# Altium integrated library AD DSP 32-Bit.IntLib: 40 symbols (part 5 of 6)
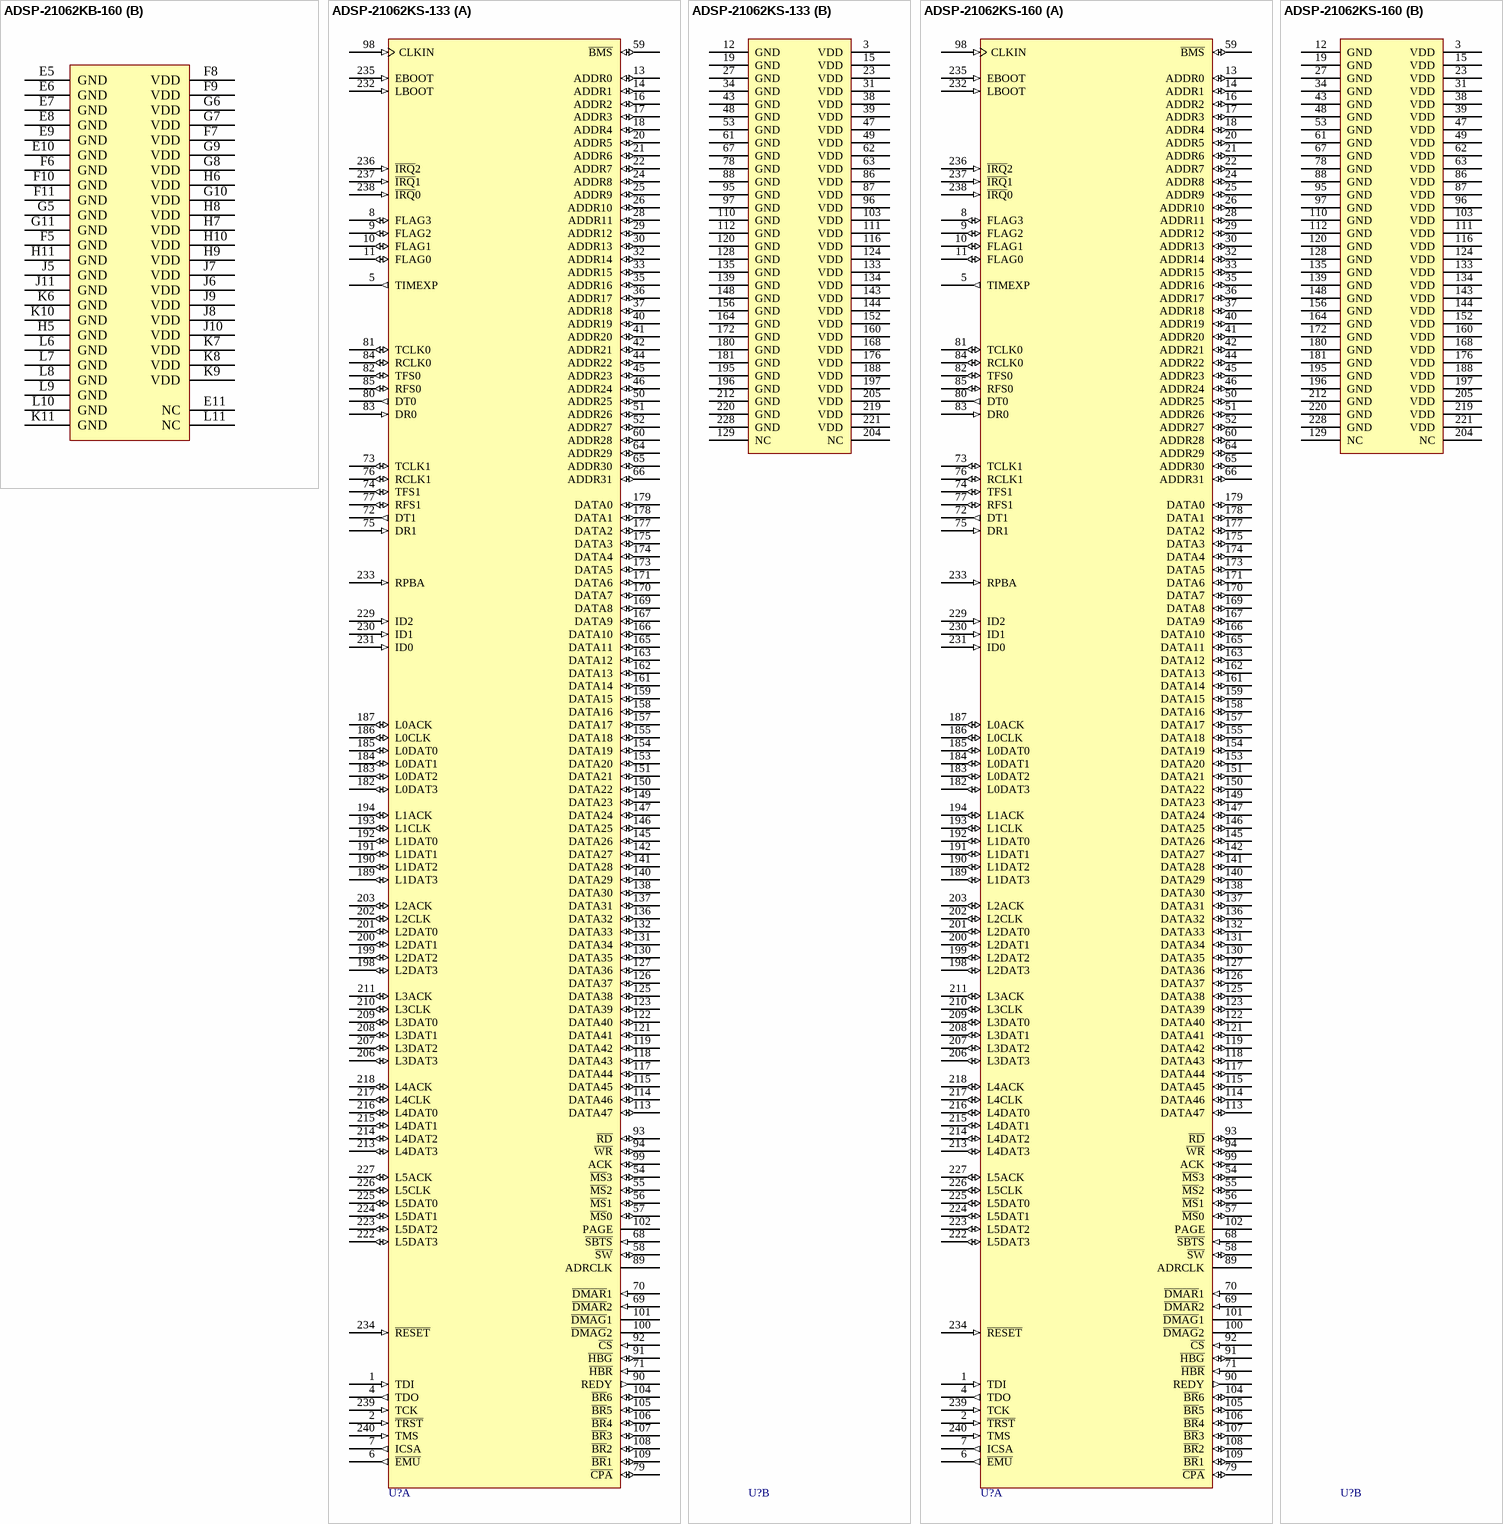
[diagram p46: symbols ADSP-21062KB-160 to ADSP-21062KS-160]

## ADSP-21062KB-160
designator U?
SHARC, 40MHZ, 120 MFLOPS, 5V, DSP Microcomputer Floating Point; Published: 24-Aug-2001; LatestRevisionDate: 13-Apr-2006; LatestRevisionNote: IPC-7351 Footprint Added.; DatasheetVersion: 2000; PackageVersion: revB; PackageReference: B225; Publisher: Altium Limited; PackageDescription: 225-Ball Ball Grid Array 1.27 mm Pitch; ComponentLink1Description: Manufacturer Link; ComponentLink1URL: http://www.analog.com/; ComponentLink2Description: Datasheet; ComponentLink2URL: http://www.analog.com/UploadedFiles/Data_Sheets/7987730331233011ADSP_21062_L_b.pdf
footprint B225 (BGA, 225-Leads, Body 23x23mm, Pitch 1.27mm)
3D model 21062-B225 (225-Ball Ball Grid Array 1.27 mm Pitch)
part A pins: A1 ~{BMS} (io), A2 ADDR30 (io), A3 ~{DMAR}2 (in), A4 DT1 (out), A5 RCLK1 (io), A6 TCLK0 (io), A7 RCLK0 (io), A8 ADRCLK (hiz), A9 ~{CS} (in), A10 CLKIN (in), A11 PAGE (hiz), A12 ~{BR}3 (io), A13 DATA47 (io), A14 DATA44 (io), A15 DATA42 (io), B1 ~{MS}0 (io), B2 ~{SW} (io), B3 ADDR31 (io), B4 ~{HBR} (in), B5 DR1 (in), B6 DT0 (out), B7 DR0 (in), B8 REDY (out), B9 ~{RD} (io), B10 ACK (io), B11 ~{BR}6 (io), B12 ~{BR}2 (io), B13 DATA45 (io), B14 DATA43 (io), B15 DATA39 (io), C1 ~{MS}3 (io), C2 ~{MS}1 (io), C3 ADDR28 (io), C4 ~{SBTS} (in), C5 TCLK1 (io), C6 RFS1 (io), C7 TFS0 (io), C8 RFS0 (io), C9 ~{WR} (io), C10 ~{DMAG}1 (hiz), C11 ~{BR}4 (io), C12 DATA46 (io), C13 DATA41 (io), C14 DATA38 (io), C15 DATA36 (io), D1 ADDR25 (io), D2 ADDR26 (io), D3 ~{MS}2 (io), D4 ADDR29 (io), D5 ~{DMAR}1 (in), D6 TFS1 (io), D7 ~{CPA} (io), D8 ~{HBG} (io), D9 ~{DMAG}2 (hiz), D10 ~{BR}5 (io), D11 ~{BR}1 (io), D12 DATA40 (io), D13 DATA37 (io), D14 DATA35 (io), D15 DATA34 (io), E1 ADDR21 (io), E2 ADDR22 (io), E3 ADDR24 (io), E4 ADDR27 (io), E12 DATA33 (io), E13 DATA30 (io), E14 DATA32 (io), E15 DATA31 (io), F1 ADDR17 (io), F2 ADDR18 (io), F3 ADDR20 (io), F4 ADDR23 (io), F12 DATA29 (io), F13 DATA26 (io), F14 DATA28 (io), F15 DATA27 (io), G1 ADDR14 (io), G2 ADDR15 (io), G3 ADDR16 (io), G4 ADDR19 (io), G12 DATA22 (io), G13 DATA25 (io), G14 DATA24 (io), G15 DATA23 (io), H1 ADDR12 (io), H2 ADDR11 (io), H3 ADDR13 (io), H4 ADDR10 (io), H12 DATA18 (io), H13 DATA19 (io), H14 DATA21 (io), H15 DATA20 (io), J1 ADDR9 (io), J2 ADDR8 (io), J3 ADDR7 (io), J4 ADDR4 (io), J12 DATA12 (io), J13 DATA15 (io), J14 DATA16 (io), J15 DATA17 (io), K1 ADDR6 (io), K2 ADDR5 (io), K3 ADDR3 (io), K4 ADDR0 (io), K5 ICSA (out), K12 DATA8 (io), K13 DATA11 (io), K14 DATA13 (io), K15 DATA14 (io), L1 ADDR2 (io), L2 ADDR1 (io), L3 FLAG0 (io), L4 FLAG3 (io), L5 RPBA (in), L12 DATA4 (io), L13 DATA7 (io), L14 DATA9 (io), L15 DATA10 (io), M1 FLAG1 (io), M2 FLAG2 (io), M3 TIMEXP (out), M4 TDI (in), M5 LBOOT (in), M6 L5ACK (io), M7 L5DAT2 (io), M8 L4DAT2 (io), M9 L3DAT0 (io), M10 L2DAT3 (io), M11 L1DAT1 (io), M12 L0DAT0 (io), M13 DATA2 (io), M14 DATA5 (io), M15 DATA6 (io), N1 ~{EMU} (out), N2 TDO (out), N3 ~{IRQ}0 (in), N4 ~{IRQ}1 (in), N5 ID2 (in), N6 L5DAT1 (io), N7 L4CLK (io), N8 L3CLK (io), N9 L3DAT3 (io), N10 L2DAT0 (io), N11 L1ACK (io), N12 L1DAT3 (io), N13 L0DAT3 (io), N14 DATA1 (io), N15 DATA3 (io), P1 ~{TRST} (in), P2 TMS (in), P3 EBOOT (in), P4 ID0 (in), P5 L5CLK (io), P6 L5DAT3 (io), P7 L4DAT0 (io), P8 L4DAT3 (io), P9 L3DAT2 (io), P10 L2CLK (io), P11 L2DAT2 (io), P12 L1DAT0 (io), P13 L0ACK (io), P14 L0DAT1 (io), P15 DATA0 (io), R1 TCK (in), R2 ~{IRQ}2 (in), R3 ~{RESET} (in), R4 ID1 (in), R5 L5DAT0 (io), R6 L4ACK (io), R7 L4DAT1 (io), R8 L3ACK (io), R9 L3DAT1 (io), R10 L2ACK (io), R11 L2DAT1 (io), R12 L1CLK (io), R13 L1DAT2 (io), R14 L0CLK (io), R15 L0DAT2 (io)
part B pins: E5 GND (power), E6 GND (power), E7 GND (power), E8 GND (power), E9 GND (power), E10 GND (power), E11 NC, F5 GND (power), F6 GND (power), F7 VDD (power), F8 VDD (power), F9 VDD (power), F10 GND (power), F11 GND (power), G5 GND (power), G6 VDD (power), G7 VDD (power), G8 VDD (power), G9 VDD (power), G10 VDD (power), G11 GND (power), H5 GND (power), H6 VDD (power), H7 VDD (power), H8 VDD (power), H9 VDD (power), H10 VDD (power), H11 GND (power), J5 GND (power), J6 VDD (power), J7 VDD (power), J8 VDD (power), J9 VDD (power), J10 VDD (power), J11 GND (power), K6 GND (power), K7 VDD (power), K8 VDD (power), K9 VDD (power), K10 GND (power), K11 GND (power), L6 GND (power), L7 GND (power), L8 GND (power), L9 GND (power), L10 GND (power), L11 NC

## ADSP-21062KS-133
designator U?
SHARC, 40MHZ, 120 MFLOPS, 5V, DSP Microcomputer Floating Point; PackageFeature: Thermally Enhanced MQFP includes heat slug on its top surface; Published: 24-Aug-2001; LatestRevisionDate: 13-Apr-2006; LatestRevisionNote: IPC-7351 Footprint Added.; DatasheetVersion: 2000; PackageVersion: 2000; PackageReference: MQFP240-5V; Publisher: Altium Limited; PackageDescription: 240-Pin Shrink Quad Flat Pack 0.5 mm Pitch; ComponentLink1Description: Manufacturer Link; ComponentLink1URL: http://www.analog.com/; ComponentLink2Description: Datasheet; ComponentLink2URL: http://www.analog.com/UploadedFiles/Data_Sheets/7987730331233011ADSP_21062_L_b.pdf
footprint MQFP240-5V_N (Shrink QFP, 240-Leads, Body 32x32mm, Pitch 0.5mm, IPC Medium Density)
footprint MQFP240-5V_L (Shrink QFP, 240-Leads, Body 32x32mm, Pitch 0.5mm, IPC High Density)
footprint MQFP240-5V_M (Shrink QFP, 240-Leads, Body 32x32mm, Pitch 0.5mm, IPC Low Density)
3D model 21062-MQFP240 (240-Pin Shrink Quad Flat Pack 0.5 mm Pitch)
part A pins: 1 TDI (in), 2 ~{TRST} (in), 4 TDO (out), 5 TIMEXP (out), 6 ~{EMU} (out), 7 ICSA (out), 8 FLAG3 (io), 9 FLAG2 (io), 10 FLAG1 (io), 11 FLAG0 (io), 13 ADDR0 (io), 14 ADDR1 (io), 16 ADDR2 (io), 17 ADDR3 (io), 18 ADDR4 (io), 20 ADDR5 (io), 21 ADDR6 (io), 22 ADDR7 (io), 24 ADDR8 (io), 25 ADDR9 (io), 26 ADDR10 (io), 28 ADDR11 (io), 29 ADDR12 (io), 30 ADDR13 (io), 32 ADDR14 (io), 33 ADDR15 (io), 35 ADDR16 (io), 36 ADDR17 (io), 37 ADDR18 (io), 40 ADDR19 (io), 41 ADDR20 (io), 42 ADDR21 (io), 44 ADDR22 (io), 45 ADDR23 (io), 46 ADDR24 (io), 50 ADDR25 (io), 51 ADDR26 (io), 52 ADDR27 (io), 54 ~{MS}3 (io), 55 ~{MS}2 (io), 56 ~{MS}1 (io), 57 ~{MS}0 (io), 58 ~{SW} (io), 59 ~{BMS} (io), 60 ADDR28 (io), 64 ADDR29 (io), 65 ADDR30 (io), 66 ADDR31 (io), 68 ~{SBTS} (in), 69 ~{DMAR}2 (in), 70 ~{DMAR}1 (in), 71 ~{HBR} (in), 72 DT1 (out), 73 TCLK1 (io), 74 TFS1 (io), 75 DR1 (in), 76 RCLK1 (io), 77 RFS1 (io), 79 ~{CPA} (io), 80 DT0 (out), 81 TCLK0 (io), 82 TFS0 (io), 83 DR0 (in), 84 RCLK0 (io), 85 RFS0 (io), 89 ADRCLK (hiz), 90 REDY (out), 91 ~{HBG} (io), 92 ~{CS} (in), 93 ~{RD} (io), 94 ~{WR} (io), 98 CLKIN (in), 99 ACK (io), 100 ~{DMAG}2 (hiz), 101 ~{DMAG}1 (hiz), 102 PAGE (hiz), 104 ~{BR}6 (io), 105 ~{BR}5 (io), 106 ~{BR}4 (io), 107 ~{BR}3 (io), 108 ~{BR}2 (io), 109 ~{BR}1 (io), 113 DATA47 (io), 114 DATA46 (io), 115 DATA45 (io), 117 DATA44 (io), 118 DATA43 (io), 119 DATA42 (io), 121 DATA41 (io), 122 DATA40 (io), 123 DATA39 (io), 125 DATA38 (io), 126 DATA37 (io), 127 DATA36 (io), 130 DATA35 (io), 131 DATA34 (io), 132 DATA33 (io), 136 DATA32 (io), 137 DATA31 (io), 138 DATA30 (io), 140 DATA29 (io), 141 DATA28 (io), 142 DATA27 (io), 145 DATA26 (io), 146 DATA25 (io), 147 DATA24 (io), 149 DATA23 (io), 150 DATA22 (io), 151 DATA21 (io), 153 DATA20 (io), 154 DATA19 (io), 155 DATA18 (io), 157 DATA17 (io), 158 DATA16 (io), 159 DATA15 (io), 161 DATA14 (io), 162 DATA13 (io), 163 DATA12 (io), 165 DATA11 (io), 166 DATA10 (io), 167 DATA9 (io), 169 DATA8 (io), 170 DATA7 (io), 171 DATA6 (io), 173 DATA5 (io), 174 DATA4 (io), 175 DATA3 (io), 177 DATA2 (io), 178 DATA1 (io), 179 DATA0 (io), 182 L0DAT3 (io), 183 L0DAT2 (io), 184 L0DAT1 (io), 185 L0DAT0 (io), 186 L0CLK (io), 187 L0ACK (io), 189 L1DAT3 (io), 190 L1DAT2 (io), 191 L1DAT1 (io), 192 L1DAT0 (io), 193 L1CLK (io), 194 L1ACK (io), 198 L2DAT3 (io), 199 L2DAT2 (io), 200 L2DAT1 (io), 201 L2DAT0 (io), 202 L2CLK (io), 203 L2ACK (io), 206 L3DAT3 (io), 207 L3DAT2 (io), 208 L3DAT1 (io), 209 L3DAT0 (io), 210 L3CLK (io), 211 L3ACK (io), 213 L4DAT3 (io), 214 L4DAT2 (io), 215 L4DAT1 (io), 216 L4DAT0 (io), 217 L4CLK (io), 218 L4ACK (io), 222 L5DAT3 (io), 223 L5DAT2 (io), 224 L5DAT1 (io), 225 L5DAT0 (io), 226 L5CLK (io), 227 L5ACK (io), 229 ID2 (in), 230 ID1 (in), 231 ID0 (in), 232 LBOOT (in), 233 RPBA (in), 234 ~{RESET} (in), 235 EBOOT (in), 236 ~{IRQ}2 (in), 237 ~{IRQ}1 (in), 238 ~{IRQ}0 (in), 239 TCK (in), 240 TMS (in)
part B pins: 3 VDD (power), 12 GND (power), 15 VDD (power), 19 GND (power), 23 VDD (power), 27 GND (power), 31 VDD (power), 34 GND (power), 38 VDD (power), 39 VDD (power), 43 GND (power), 47 VDD (power), 48 GND (power), 49 VDD (power), 53 GND (power), 61 GND (power), 62 VDD (power), 63 VDD (power), 67 GND (power), 78 GND (power), 86 VDD (power), 87 VDD (power), 88 GND (power), 95 GND (power), 96 VDD (power), 97 GND (power), 103 VDD (power), 110 GND (power), 111 VDD (power), 112 GND (power), 116 VDD (power), 120 GND (power), 124 VDD (power), 128 GND (power), 129 NC, 133 VDD (power), 134 VDD (power), 135 GND (power), 139 GND (power), 143 VDD (power), 144 VDD (power), 148 GND (power), 152 VDD (power), 156 GND (power), 160 VDD (power), 164 GND (power), 168 VDD (power), 172 GND (power), 176 VDD (power), 180 GND (power), 181 GND (power), 188 VDD (power), 195 GND (power), 196 GND (power), 197 VDD (power), 204 NC, 205 VDD (power), 212 GND (power), 219 VDD (power), 220 GND (power), 221 VDD (power), 228 GND (power)

## ADSP-21062KS-160
designator U?
SHARC, 40MHZ, 120 MFLOPS, 5V, DSP Microcomputer Floating Point; PackageFeature: Thermally Enhanced MQFP includes heat slug on its top surface; Published: 24-Aug-2001; LatestRevisionDate: 13-Apr-2006; LatestRevisionNote: IPC-7351 Footprint Added.; DatasheetVersion: 2000; PackageVersion: 2000; PackageReference: MQFP240-5V; Publisher: Altium Limited; PackageDescription: 240-Pin Shrink Quad Flat Pack 0.5 mm Pitch; ComponentLink1Description: Manufacturer Link; ComponentLink1URL: http://www.analog.com/; ComponentLink2Description: Datasheet; ComponentLink2URL: http://www.analog.com/UploadedFiles/Data_Sheets/7987730331233011ADSP_21062_L_b.pdf
footprint MQFP240-5V_N (Shrink QFP, 240-Leads, Body 32x32mm, Pitch 0.5mm, IPC Medium Density)
footprint MQFP240-5V_L (Shrink QFP, 240-Leads, Body 32x32mm, Pitch 0.5mm, IPC High Density)
footprint MQFP240-5V_M (Shrink QFP, 240-Leads, Body 32x32mm, Pitch 0.5mm, IPC Low Density)
3D model 21062-MQFP240 (240-Pin Shrink Quad Flat Pack 0.5 mm Pitch)
part A pins: 1 TDI (in), 2 ~{TRST} (in), 4 TDO (out), 5 TIMEXP (out), 6 ~{EMU} (out), 7 ICSA (out), 8 FLAG3 (io), 9 FLAG2 (io), 10 FLAG1 (io), 11 FLAG0 (io), 13 ADDR0 (io), 14 ADDR1 (io), 16 ADDR2 (io), 17 ADDR3 (io), 18 ADDR4 (io), 20 ADDR5 (io), 21 ADDR6 (io), 22 ADDR7 (io), 24 ADDR8 (io), 25 ADDR9 (io), 26 ADDR10 (io), 28 ADDR11 (io), 29 ADDR12 (io), 30 ADDR13 (io), 32 ADDR14 (io), 33 ADDR15 (io), 35 ADDR16 (io), 36 ADDR17 (io), 37 ADDR18 (io), 40 ADDR19 (io), 41 ADDR20 (io), 42 ADDR21 (io), 44 ADDR22 (io), 45 ADDR23 (io), 46 ADDR24 (io), 50 ADDR25 (io), 51 ADDR26 (io), 52 ADDR27 (io), 54 ~{MS}3 (io), 55 ~{MS}2 (io), 56 ~{MS}1 (io), 57 ~{MS}0 (io), 58 ~{SW} (io), 59 ~{BMS} (io), 60 ADDR28 (io), 64 ADDR29 (io), 65 ADDR30 (io), 66 ADDR31 (io), 68 ~{SBTS} (in), 69 ~{DMAR}2 (in), 70 ~{DMAR}1 (in), 71 ~{HBR} (in), 72 DT1 (out), 73 TCLK1 (io), 74 TFS1 (io), 75 DR1 (in), 76 RCLK1 (io), 77 RFS1 (io), 79 ~{CPA} (io), 80 DT0 (out), 81 TCLK0 (io), 82 TFS0 (io), 83 DR0 (in), 84 RCLK0 (io), 85 RFS0 (io), 89 ADRCLK (hiz), 90 REDY (out), 91 ~{HBG} (io), 92 ~{CS} (in), 93 ~{RD} (io), 94 ~{WR} (io), 98 CLKIN (in), 99 ACK (io), 100 ~{DMAG}2 (hiz), 101 ~{DMAG}1 (hiz), 102 PAGE (hiz), 104 ~{BR}6 (io), 105 ~{BR}5 (io), 106 ~{BR}4 (io), 107 ~{BR}3 (io), 108 ~{BR}2 (io), 109 ~{BR}1 (io), 113 DATA47 (io), 114 DATA46 (io), 115 DATA45 (io), 117 DATA44 (io), 118 DATA43 (io), 119 DATA42 (io), 121 DATA41 (io), 122 DATA40 (io), 123 DATA39 (io), 125 DATA38 (io), 126 DATA37 (io), 127 DATA36 (io), 130 DATA35 (io), 131 DATA34 (io), 132 DATA33 (io), 136 DATA32 (io), 137 DATA31 (io), 138 DATA30 (io), 140 DATA29 (io), 141 DATA28 (io), 142 DATA27 (io), 145 DATA26 (io), 146 DATA25 (io), 147 DATA24 (io), 149 DATA23 (io), 150 DATA22 (io), 151 DATA21 (io), 153 DATA20 (io), 154 DATA19 (io), 155 DATA18 (io), 157 DATA17 (io), 158 DATA16 (io), 159 DATA15 (io), 161 DATA14 (io), 162 DATA13 (io), 163 DATA12 (io), 165 DATA11 (io), 166 DATA10 (io), 167 DATA9 (io), 169 DATA8 (io), 170 DATA7 (io), 171 DATA6 (io), 173 DATA5 (io), 174 DATA4 (io), 175 DATA3 (io), 177 DATA2 (io), 178 DATA1 (io), 179 DATA0 (io), 182 L0DAT3 (io), 183 L0DAT2 (io), 184 L0DAT1 (io), 185 L0DAT0 (io), 186 L0CLK (io), 187 L0ACK (io), 189 L1DAT3 (io), 190 L1DAT2 (io), 191 L1DAT1 (io), 192 L1DAT0 (io), 193 L1CLK (io), 194 L1ACK (io), 198 L2DAT3 (io), 199 L2DAT2 (io), 200 L2DAT1 (io), 201 L2DAT0 (io), 202 L2CLK (io), 203 L2ACK (io), 206 L3DAT3 (io), 207 L3DAT2 (io), 208 L3DAT1 (io), 209 L3DAT0 (io), 210 L3CLK (io), 211 L3ACK (io), 213 L4DAT3 (io), 214 L4DAT2 (io), 215 L4DAT1 (io), 216 L4DAT0 (io), 217 L4CLK (io), 218 L4ACK (io), 222 L5DAT3 (io), 223 L5DAT2 (io), 224 L5DAT1 (io), 225 L5DAT0 (io), 226 L5CLK (io), 227 L5ACK (io), 229 ID2 (in), 230 ID1 (in), 231 ID0 (in), 232 LBOOT (in), 233 RPBA (in), 234 ~{RESET} (in), 235 EBOOT (in), 236 ~{IRQ}2 (in), 237 ~{IRQ}1 (in), 238 ~{IRQ}0 (in), 239 TCK (in), 240 TMS (in)
part B pins: 3 VDD (power), 12 GND (power), 15 VDD (power), 19 GND (power), 23 VDD (power), 27 GND (power), 31 VDD (power), 34 GND (power), 38 VDD (power), 39 VDD (power), 43 GND (power), 47 VDD (power), 48 GND (power), 49 VDD (power), 53 GND (power), 61 GND (power), 62 VDD (power), 63 VDD (power), 67 GND (power), 78 GND (power), 86 VDD (power), 87 VDD (power), 88 GND (power), 95 GND (power), 96 VDD (power), 97 GND (power), 103 VDD (power), 110 GND (power), 111 VDD (power), 112 GND (power), 116 VDD (power), 120 GND (power), 124 VDD (power), 128 GND (power), 129 NC, 133 VDD (power), 134 VDD (power), 135 GND (power), 139 GND (power), 143 VDD (power), 144 VDD (power), 148 GND (power), 152 VDD (power), 156 GND (power), 160 VDD (power), 164 GND (power), 168 VDD (power), 172 GND (power), 176 VDD (power), 180 GND (power), 181 GND (power), 188 VDD (power), 195 GND (power), 196 GND (power), 197 VDD (power), 204 NC, 205 VDD (power), 212 GND (power), 219 VDD (power), 220 GND (power), 221 VDD (power), 228 GND (power)

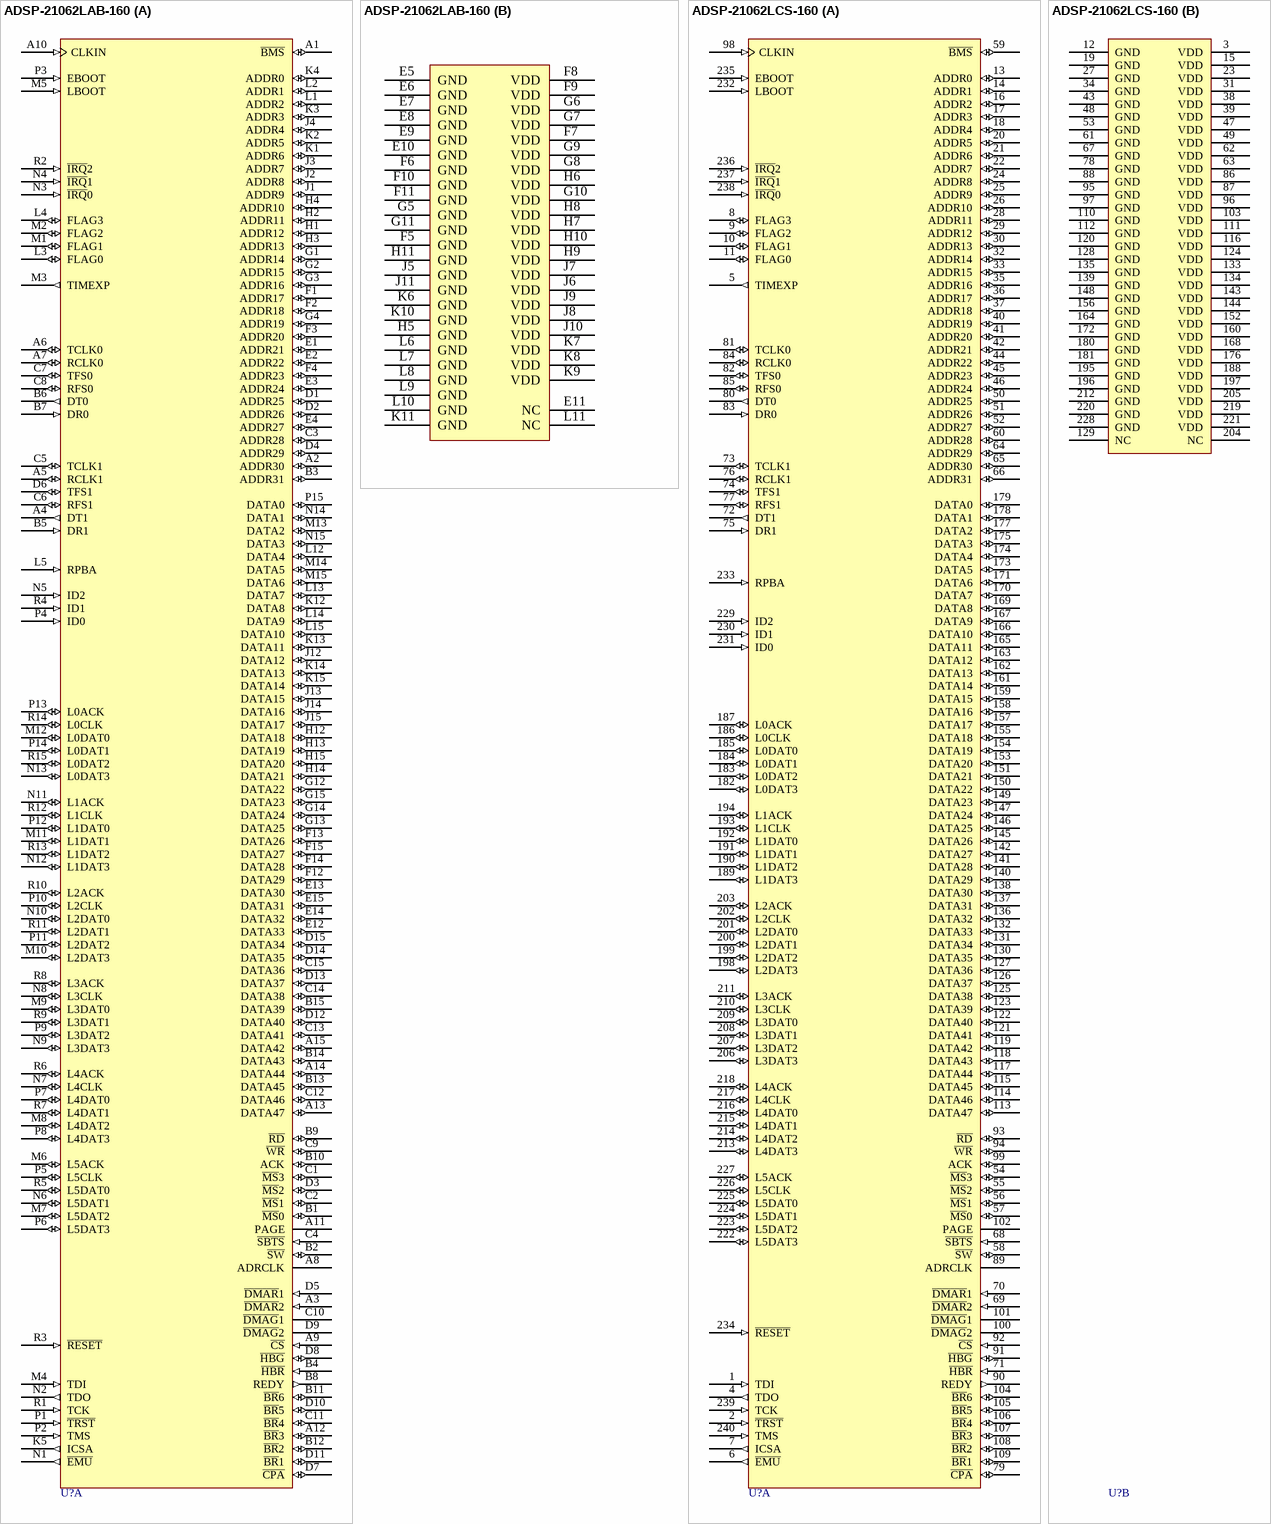
[diagram p35: symbols ADSP-21062LAB-160 to ADSP-21062LCS-160]

## ADSP-21062LAB-160
designator U?
SHARC, 40MHZ, 120 MFLOPS, 3.3V, DSP Microcomputer Floating Point; Published: 24-Aug-2001; LatestRevisionDate: 13-Apr-2006; LatestRevisionNote: IPC-7351 Footprint Added.; DatasheetVersion: 2000; PackageVersion: revB; PackageReference: B225; Publisher: Altium Limited; PackageDescription: 225-Ball Ball Grid Array 1.27 mm Pitch; ComponentLink1Description: Manufacturer Link; ComponentLink1URL: http://www.analog.com/; ComponentLink2Description: Datasheet; ComponentLink2URL: http://www.analog.com/UploadedFiles/Data_Sheets/7987730331233011ADSP_21062_L_b.pdf
footprint B225 (BGA, 225-Leads, Body 23x23mm, Pitch 1.27mm)
3D model 21062L-B225 (225-Ball Ball Grid Array 1.27 mm Pitch)
part A pins: A1 ~{BMS} (io), A2 ADDR30 (io), A3 ~{DMAR}2 (in), A4 DT1 (out), A5 RCLK1 (io), A6 TCLK0 (io), A7 RCLK0 (io), A8 ADRCLK (hiz), A9 ~{CS} (in), A10 CLKIN (in), A11 PAGE (hiz), A12 ~{BR}3 (io), A13 DATA47 (io), A14 DATA44 (io), A15 DATA42 (io), B1 ~{MS}0 (io), B2 ~{SW} (io), B3 ADDR31 (io), B4 ~{HBR} (in), B5 DR1 (in), B6 DT0 (out), B7 DR0 (in), B8 REDY (out), B9 ~{RD} (io), B10 ACK (io), B11 ~{BR}6 (io), B12 ~{BR}2 (io), B13 DATA45 (io), B14 DATA43 (io), B15 DATA39 (io), C1 ~{MS}3 (io), C2 ~{MS}1 (io), C3 ADDR28 (io), C4 ~{SBTS} (in), C5 TCLK1 (io), C6 RFS1 (io), C7 TFS0 (io), C8 RFS0 (io), C9 ~{WR} (io), C10 ~{DMAG}1 (hiz), C11 ~{BR}4 (io), C12 DATA46 (io), C13 DATA41 (io), C14 DATA38 (io), C15 DATA36 (io), D1 ADDR25 (io), D2 ADDR26 (io), D3 ~{MS}2 (io), D4 ADDR29 (io), D5 ~{DMAR}1 (in), D6 TFS1 (io), D7 ~{CPA} (io), D8 ~{HBG} (io), D9 ~{DMAG}2 (hiz), D10 ~{BR}5 (io), D11 ~{BR}1 (io), D12 DATA40 (io), D13 DATA37 (io), D14 DATA35 (io), D15 DATA34 (io), E1 ADDR21 (io), E2 ADDR22 (io), E3 ADDR24 (io), E4 ADDR27 (io), E12 DATA33 (io), E13 DATA30 (io), E14 DATA32 (io), E15 DATA31 (io), F1 ADDR17 (io), F2 ADDR18 (io), F3 ADDR20 (io), F4 ADDR23 (io), F12 DATA29 (io), F13 DATA26 (io), F14 DATA28 (io), F15 DATA27 (io), G1 ADDR14 (io), G2 ADDR15 (io), G3 ADDR16 (io), G4 ADDR19 (io), G12 DATA22 (io), G13 DATA25 (io), G14 DATA24 (io), G15 DATA23 (io), H1 ADDR12 (io), H2 ADDR11 (io), H3 ADDR13 (io), H4 ADDR10 (io), H12 DATA18 (io), H13 DATA19 (io), H14 DATA21 (io), H15 DATA20 (io), J1 ADDR9 (io), J2 ADDR8 (io), J3 ADDR7 (io), J4 ADDR4 (io), J12 DATA12 (io), J13 DATA15 (io), J14 DATA16 (io), J15 DATA17 (io), K1 ADDR6 (io), K2 ADDR5 (io), K3 ADDR3 (io), K4 ADDR0 (io), K5 ICSA (out), K12 DATA8 (io), K13 DATA11 (io), K14 DATA13 (io), K15 DATA14 (io), L1 ADDR2 (io), L2 ADDR1 (io), L3 FLAG0 (io), L4 FLAG3 (io), L5 RPBA (in), L12 DATA4 (io), L13 DATA7 (io), L14 DATA9 (io), L15 DATA10 (io), M1 FLAG1 (io), M2 FLAG2 (io), M3 TIMEXP (out), M4 TDI (in), M5 LBOOT (in), M6 L5ACK (io), M7 L5DAT2 (io), M8 L4DAT2 (io), M9 L3DAT0 (io), M10 L2DAT3 (io), M11 L1DAT1 (io), M12 L0DAT0 (io), M13 DATA2 (io), M14 DATA5 (io), M15 DATA6 (io), N1 ~{EMU} (out), N2 TDO (out), N3 ~{IRQ}0 (in), N4 ~{IRQ}1 (in), N5 ID2 (in), N6 L5DAT1 (io), N7 L4CLK (io), N8 L3CLK (io), N9 L3DAT3 (io), N10 L2DAT0 (io), N11 L1ACK (io), N12 L1DAT3 (io), N13 L0DAT3 (io), N14 DATA1 (io), N15 DATA3 (io), P1 ~{TRST} (in), P2 TMS (in), P3 EBOOT (in), P4 ID0 (in), P5 L5CLK (io), P6 L5DAT3 (io), P7 L4DAT0 (io), P8 L4DAT3 (io), P9 L3DAT2 (io), P10 L2CLK (io), P11 L2DAT2 (io), P12 L1DAT0 (io), P13 L0ACK (io), P14 L0DAT1 (io), P15 DATA0 (io), R1 TCK (in), R2 ~{IRQ}2 (in), R3 ~{RESET} (in), R4 ID1 (in), R5 L5DAT0 (io), R6 L4ACK (io), R7 L4DAT1 (io), R8 L3ACK (io), R9 L3DAT1 (io), R10 L2ACK (io), R11 L2DAT1 (io), R12 L1CLK (io), R13 L1DAT2 (io), R14 L0CLK (io), R15 L0DAT2 (io)
part B pins: E5 GND (power), E6 GND (power), E7 GND (power), E8 GND (power), E9 GND (power), E10 GND (power), E11 NC, F5 GND (power), F6 GND (power), F7 VDD (power), F8 VDD (power), F9 VDD (power), F10 GND (power), F11 GND (power), G5 GND (power), G6 VDD (power), G7 VDD (power), G8 VDD (power), G9 VDD (power), G10 VDD (power), G11 GND (power), H5 GND (power), H6 VDD (power), H7 VDD (power), H8 VDD (power), H9 VDD (power), H10 VDD (power), H11 GND (power), J5 GND (power), J6 VDD (power), J7 VDD (power), J8 VDD (power), J9 VDD (power), J10 VDD (power), J11 GND (power), K6 GND (power), K7 VDD (power), K8 VDD (power), K9 VDD (power), K10 GND (power), K11 GND (power), L6 GND (power), L7 GND (power), L8 GND (power), L9 GND (power), L10 GND (power), L11 NC

## ADSP-21062LCS-160
designator U?
SHARC, 40MHZ, 120 MFLOPS, 3.3V, DSP Microcomputer Floating Point; Published: 24-Aug-2001; LatestRevisionDate: 13-Apr-2006; LatestRevisionNote: IPC-7351 Footprint Added.; DatasheetVersion: 2000; PackageVersion: 2000; PackageReference: MQFP240-3.3V; Publisher: Altium Limited; PackageDescription: 240-Pin Shrink Quad Flat Pack 0.5 mm Pitch; ComponentLink1Description: Manufacturer Link; ComponentLink1URL: http://www.analog.com/; ComponentLink2Description: Datasheet; ComponentLink2URL: http://www.analog.com/UploadedFiles/Data_Sheets/7987730331233011ADSP_21062_L_b.pdf
footprint MQFP240-3.3V_N (Shrink QFP, 240-Leads, Body 32x32mm, Pitch 0.5mm, IPC Medium Density)
footprint MQFP240-3.3V_L (Shrink QFP, 240-Leads, Body 32x32mm, Pitch 0.5mm, IPC High Density)
footprint MQFP240-3.3V_M (Shrink QFP, 240-Leads, Body 32x32mm, Pitch 0.5mm, IPC Low Density)
3D model 21062L-MQFP240 (240-Pin Shrink Quad Flat Pack 0.5 mm Pitch)
part A pins: 1 TDI (in), 2 ~{TRST} (in), 4 TDO (out), 5 TIMEXP (out), 6 ~{EMU} (out), 7 ICSA (out), 8 FLAG3 (io), 9 FLAG2 (io), 10 FLAG1 (io), 11 FLAG0 (io), 13 ADDR0 (io), 14 ADDR1 (io), 16 ADDR2 (io), 17 ADDR3 (io), 18 ADDR4 (io), 20 ADDR5 (io), 21 ADDR6 (io), 22 ADDR7 (io), 24 ADDR8 (io), 25 ADDR9 (io), 26 ADDR10 (io), 28 ADDR11 (io), 29 ADDR12 (io), 30 ADDR13 (io), 32 ADDR14 (io), 33 ADDR15 (io), 35 ADDR16 (io), 36 ADDR17 (io), 37 ADDR18 (io), 40 ADDR19 (io), 41 ADDR20 (io), 42 ADDR21 (io), 44 ADDR22 (io), 45 ADDR23 (io), 46 ADDR24 (io), 50 ADDR25 (io), 51 ADDR26 (io), 52 ADDR27 (io), 54 ~{MS}3 (io), 55 ~{MS}2 (io), 56 ~{MS}1 (io), 57 ~{MS}0 (io), 58 ~{SW} (io), 59 ~{BMS} (io), 60 ADDR28 (io), 64 ADDR29 (io), 65 ADDR30 (io), 66 ADDR31 (io), 68 ~{SBTS} (in), 69 ~{DMAR}2 (in), 70 ~{DMAR}1 (in), 71 ~{HBR} (in), 72 DT1 (out), 73 TCLK1 (io), 74 TFS1 (io), 75 DR1 (in), 76 RCLK1 (io), 77 RFS1 (io), 79 ~{CPA} (io), 80 DT0 (out), 81 TCLK0 (io), 82 TFS0 (io), 83 DR0 (in), 84 RCLK0 (io), 85 RFS0 (io), 89 ADRCLK (hiz), 90 REDY (out), 91 ~{HBG} (io), 92 ~{CS} (in), 93 ~{RD} (io), 94 ~{WR} (io), 98 CLKIN (in), 99 ACK (io), 100 ~{DMAG}2 (hiz), 101 ~{DMAG}1 (hiz), 102 PAGE (hiz), 104 ~{BR}6 (io), 105 ~{BR}5 (io), 106 ~{BR}4 (io), 107 ~{BR}3 (io), 108 ~{BR}2 (io), 109 ~{BR}1 (io), 113 DATA47 (io), 114 DATA46 (io), 115 DATA45 (io), 117 DATA44 (io), 118 DATA43 (io), 119 DATA42 (io), 121 DATA41 (io), 122 DATA40 (io), 123 DATA39 (io), 125 DATA38 (io), 126 DATA37 (io), 127 DATA36 (io), 130 DATA35 (io), 131 DATA34 (io), 132 DATA33 (io), 136 DATA32 (io), 137 DATA31 (io), 138 DATA30 (io), 140 DATA29 (io), 141 DATA28 (io), 142 DATA27 (io), 145 DATA26 (io), 146 DATA25 (io), 147 DATA24 (io), 149 DATA23 (io), 150 DATA22 (io), 151 DATA21 (io), 153 DATA20 (io), 154 DATA19 (io), 155 DATA18 (io), 157 DATA17 (io), 158 DATA16 (io), 159 DATA15 (io), 161 DATA14 (io), 162 DATA13 (io), 163 DATA12 (io), 165 DATA11 (io), 166 DATA10 (io), 167 DATA9 (io), 169 DATA8 (io), 170 DATA7 (io), 171 DATA6 (io), 173 DATA5 (io), 174 DATA4 (io), 175 DATA3 (io), 177 DATA2 (io), 178 DATA1 (io), 179 DATA0 (io), 182 L0DAT3 (io), 183 L0DAT2 (io), 184 L0DAT1 (io), 185 L0DAT0 (io), 186 L0CLK (io), 187 L0ACK (io), 189 L1DAT3 (io), 190 L1DAT2 (io), 191 L1DAT1 (io), 192 L1DAT0 (io), 193 L1CLK (io), 194 L1ACK (io), 198 L2DAT3 (io), 199 L2DAT2 (io), 200 L2DAT1 (io), 201 L2DAT0 (io), 202 L2CLK (io), 203 L2ACK (io), 206 L3DAT3 (io), 207 L3DAT2 (io), 208 L3DAT1 (io), 209 L3DAT0 (io), 210 L3CLK (io), 211 L3ACK (io), 213 L4DAT3 (io), 214 L4DAT2 (io), 215 L4DAT1 (io), 216 L4DAT0 (io), 217 L4CLK (io), 218 L4ACK (io), 222 L5DAT3 (io), 223 L5DAT2 (io), 224 L5DAT1 (io), 225 L5DAT0 (io), 226 L5CLK (io), 227 L5ACK (io), 229 ID2 (in), 230 ID1 (in), 231 ID0 (in), 232 LBOOT (in), 233 RPBA (in), 234 ~{RESET} (in), 235 EBOOT (in), 236 ~{IRQ}2 (in), 237 ~{IRQ}1 (in), 238 ~{IRQ}0 (in), 239 TCK (in), 240 TMS (in)
part B pins: 3 VDD (power), 12 GND (power), 15 VDD (power), 19 GND (power), 23 VDD (power), 27 GND (power), 31 VDD (power), 34 GND (power), 38 VDD (power), 39 VDD (power), 43 GND (power), 47 VDD (power), 48 GND (power), 49 VDD (power), 53 GND (power), 61 GND (power), 62 VDD (power), 63 VDD (power), 67 GND (power), 78 GND (power), 86 VDD (power), 87 VDD (power), 88 GND (power), 95 GND (power), 96 VDD (power), 97 GND (power), 103 VDD (power), 110 GND (power), 111 VDD (power), 112 GND (power), 116 VDD (power), 120 GND (power), 124 VDD (power), 128 GND (power), 129 NC, 133 VDD (power), 134 VDD (power), 135 GND (power), 139 GND (power), 143 VDD (power), 144 VDD (power), 148 GND (power), 152 VDD (power), 156 GND (power), 160 VDD (power), 164 GND (power), 168 VDD (power), 172 GND (power), 176 VDD (power), 180 GND (power), 181 GND (power), 188 VDD (power), 195 GND (power), 196 GND (power), 197 VDD (power), 204 NC, 205 VDD (power), 212 GND (power), 219 VDD (power), 220 GND (power), 221 VDD (power), 228 GND (power)

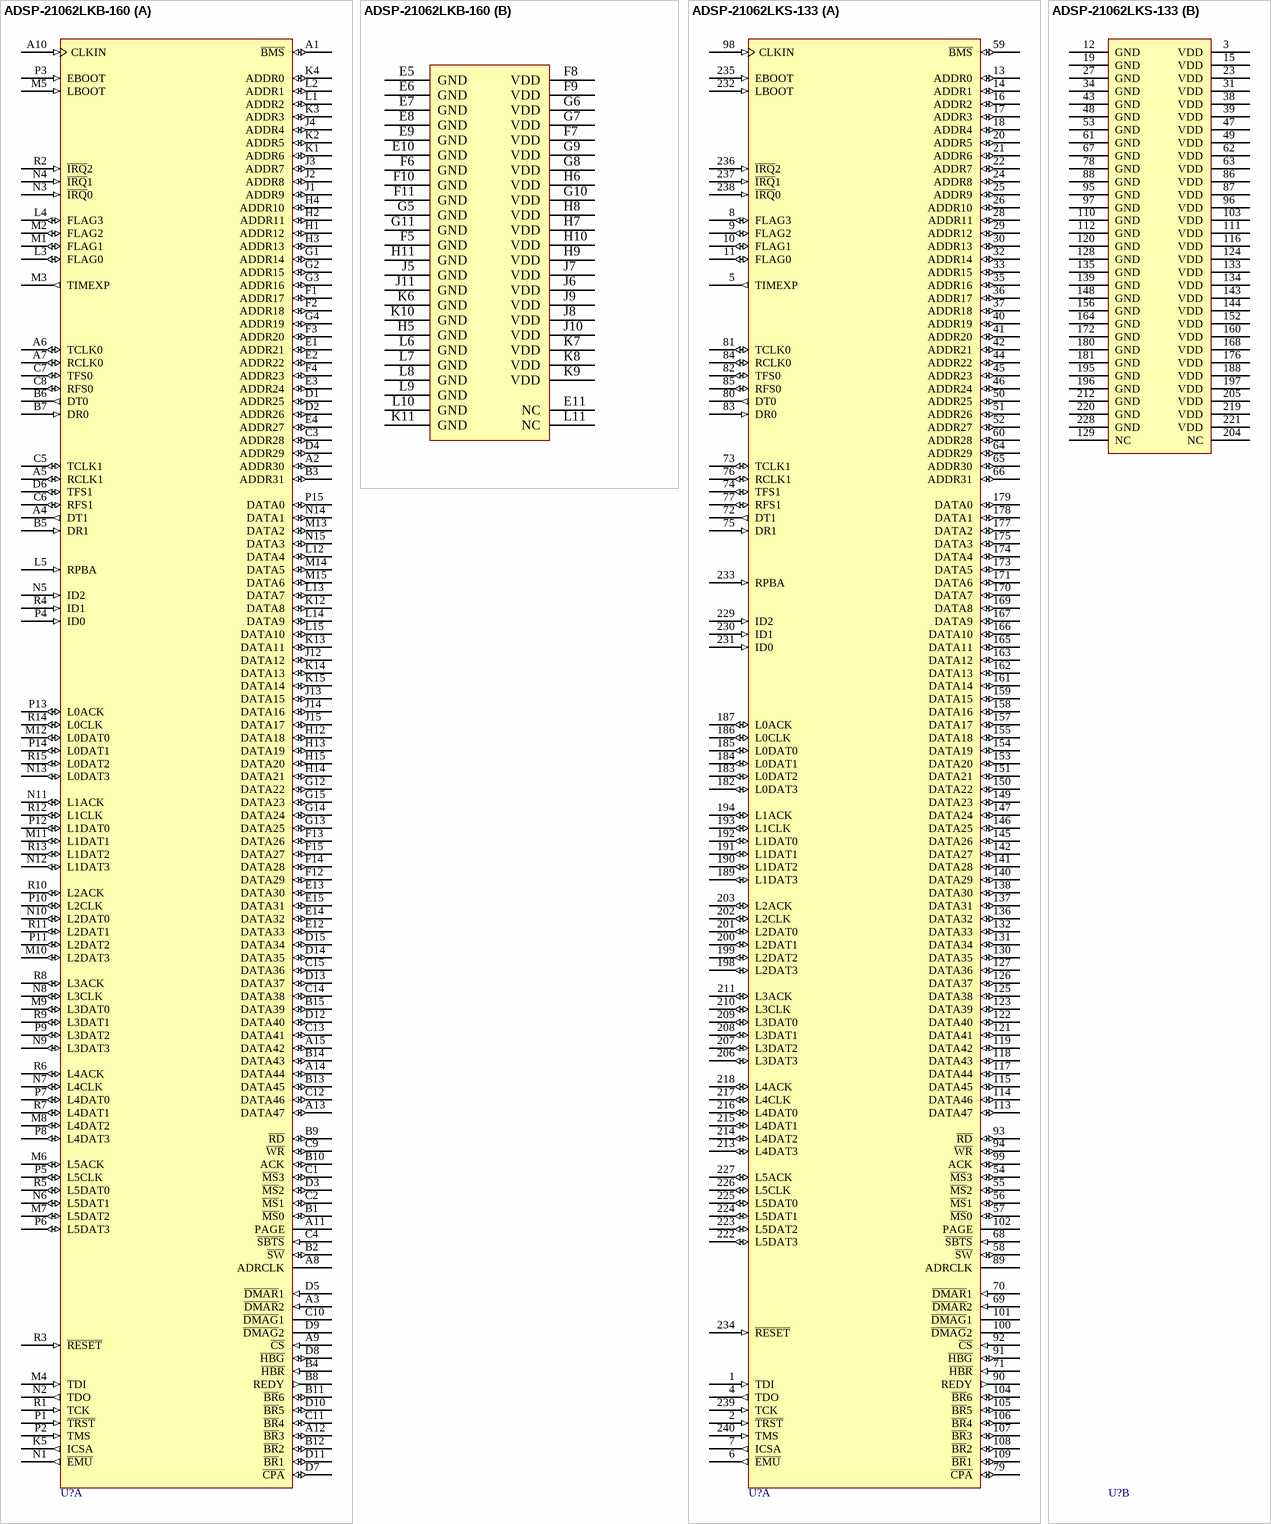
[diagram p36: symbols ADSP-21062LKB-160 to ADSP-21062LKS-133]

## ADSP-21062LKB-160
designator U?
SHARC, 40MHZ, 120 MFLOPS, 3.3V, DSP Microcomputer Floating Point; Published: 24-Aug-2001; LatestRevisionDate: 13-Apr-2006; LatestRevisionNote: IPC-7351 Footprint Added.; DatasheetVersion: 2000; PackageVersion: revB; PackageReference: B225; Publisher: Altium Limited; PackageDescription: 225-Ball Ball Grid Array 1.27 mm Pitch; ComponentLink1Description: Manufacturer Link; ComponentLink1URL: http://www.analog.com/; ComponentLink2Description: Datasheet; ComponentLink2URL: http://www.analog.com/UploadedFiles/Data_Sheets/7987730331233011ADSP_21062_L_b.pdf
footprint B225 (BGA, 225-Leads, Body 23x23mm, Pitch 1.27mm)
3D model 21062L-B225 (225-Ball Ball Grid Array 1.27 mm Pitch)
part A pins: A1 ~{BMS} (io), A2 ADDR30 (io), A3 ~{DMAR}2 (in), A4 DT1 (out), A5 RCLK1 (io), A6 TCLK0 (io), A7 RCLK0 (io), A8 ADRCLK (hiz), A9 ~{CS} (in), A10 CLKIN (in), A11 PAGE (hiz), A12 ~{BR}3 (io), A13 DATA47 (io), A14 DATA44 (io), A15 DATA42 (io), B1 ~{MS}0 (io), B2 ~{SW} (io), B3 ADDR31 (io), B4 ~{HBR} (in), B5 DR1 (in), B6 DT0 (out), B7 DR0 (in), B8 REDY (out), B9 ~{RD} (io), B10 ACK (io), B11 ~{BR}6 (io), B12 ~{BR}2 (io), B13 DATA45 (io), B14 DATA43 (io), B15 DATA39 (io), C1 ~{MS}3 (io), C2 ~{MS}1 (io), C3 ADDR28 (io), C4 ~{SBTS} (in), C5 TCLK1 (io), C6 RFS1 (io), C7 TFS0 (io), C8 RFS0 (io), C9 ~{WR} (io), C10 ~{DMAG}1 (hiz), C11 ~{BR}4 (io), C12 DATA46 (io), C13 DATA41 (io), C14 DATA38 (io), C15 DATA36 (io), D1 ADDR25 (io), D2 ADDR26 (io), D3 ~{MS}2 (io), D4 ADDR29 (io), D5 ~{DMAR}1 (in), D6 TFS1 (io), D7 ~{CPA} (io), D8 ~{HBG} (io), D9 ~{DMAG}2 (hiz), D10 ~{BR}5 (io), D11 ~{BR}1 (io), D12 DATA40 (io), D13 DATA37 (io), D14 DATA35 (io), D15 DATA34 (io), E1 ADDR21 (io), E2 ADDR22 (io), E3 ADDR24 (io), E4 ADDR27 (io), E12 DATA33 (io), E13 DATA30 (io), E14 DATA32 (io), E15 DATA31 (io), F1 ADDR17 (io), F2 ADDR18 (io), F3 ADDR20 (io), F4 ADDR23 (io), F12 DATA29 (io), F13 DATA26 (io), F14 DATA28 (io), F15 DATA27 (io), G1 ADDR14 (io), G2 ADDR15 (io), G3 ADDR16 (io), G4 ADDR19 (io), G12 DATA22 (io), G13 DATA25 (io), G14 DATA24 (io), G15 DATA23 (io), H1 ADDR12 (io), H2 ADDR11 (io), H3 ADDR13 (io), H4 ADDR10 (io), H12 DATA18 (io), H13 DATA19 (io), H14 DATA21 (io), H15 DATA20 (io), J1 ADDR9 (io), J2 ADDR8 (io), J3 ADDR7 (io), J4 ADDR4 (io), J12 DATA12 (io), J13 DATA15 (io), J14 DATA16 (io), J15 DATA17 (io), K1 ADDR6 (io), K2 ADDR5 (io), K3 ADDR3 (io), K4 ADDR0 (io), K5 ICSA (out), K12 DATA8 (io), K13 DATA11 (io), K14 DATA13 (io), K15 DATA14 (io), L1 ADDR2 (io), L2 ADDR1 (io), L3 FLAG0 (io), L4 FLAG3 (io), L5 RPBA (in), L12 DATA4 (io), L13 DATA7 (io), L14 DATA9 (io), L15 DATA10 (io), M1 FLAG1 (io), M2 FLAG2 (io), M3 TIMEXP (out), M4 TDI (in), M5 LBOOT (in), M6 L5ACK (io), M7 L5DAT2 (io), M8 L4DAT2 (io), M9 L3DAT0 (io), M10 L2DAT3 (io), M11 L1DAT1 (io), M12 L0DAT0 (io), M13 DATA2 (io), M14 DATA5 (io), M15 DATA6 (io), N1 ~{EMU} (out), N2 TDO (out), N3 ~{IRQ}0 (in), N4 ~{IRQ}1 (in), N5 ID2 (in), N6 L5DAT1 (io), N7 L4CLK (io), N8 L3CLK (io), N9 L3DAT3 (io), N10 L2DAT0 (io), N11 L1ACK (io), N12 L1DAT3 (io), N13 L0DAT3 (io), N14 DATA1 (io), N15 DATA3 (io), P1 ~{TRST} (in), P2 TMS (in), P3 EBOOT (in), P4 ID0 (in), P5 L5CLK (io), P6 L5DAT3 (io), P7 L4DAT0 (io), P8 L4DAT3 (io), P9 L3DAT2 (io), P10 L2CLK (io), P11 L2DAT2 (io), P12 L1DAT0 (io), P13 L0ACK (io), P14 L0DAT1 (io), P15 DATA0 (io), R1 TCK (in), R2 ~{IRQ}2 (in), R3 ~{RESET} (in), R4 ID1 (in), R5 L5DAT0 (io), R6 L4ACK (io), R7 L4DAT1 (io), R8 L3ACK (io), R9 L3DAT1 (io), R10 L2ACK (io), R11 L2DAT1 (io), R12 L1CLK (io), R13 L1DAT2 (io), R14 L0CLK (io), R15 L0DAT2 (io)
part B pins: E5 GND (power), E6 GND (power), E7 GND (power), E8 GND (power), E9 GND (power), E10 GND (power), E11 NC, F5 GND (power), F6 GND (power), F7 VDD (power), F8 VDD (power), F9 VDD (power), F10 GND (power), F11 GND (power), G5 GND (power), G6 VDD (power), G7 VDD (power), G8 VDD (power), G9 VDD (power), G10 VDD (power), G11 GND (power), H5 GND (power), H6 VDD (power), H7 VDD (power), H8 VDD (power), H9 VDD (power), H10 VDD (power), H11 GND (power), J5 GND (power), J6 VDD (power), J7 VDD (power), J8 VDD (power), J9 VDD (power), J10 VDD (power), J11 GND (power), K6 GND (power), K7 VDD (power), K8 VDD (power), K9 VDD (power), K10 GND (power), K11 GND (power), L6 GND (power), L7 GND (power), L8 GND (power), L9 GND (power), L10 GND (power), L11 NC

## ADSP-21062LKS-133
designator U?
SHARC, 40MHZ, 120 MFLOPS, 3.3V, DSP Microcomputer Floating Point; Published: 24-Aug-2001; LatestRevisionDate: 13-Apr-2006; LatestRevisionNote: IPC-7351 Footprint Added.; DatasheetVersion: 2000; PackageVersion: 2000; PackageReference: MQFP240-3.3V; Publisher: Altium Limited; PackageDescription: 240-Pin Shrink Quad Flat Pack 0.5 mm Pitch; ComponentLink1Description: Manufacturer Link; ComponentLink1URL: http://www.analog.com/; ComponentLink2Description: Datasheet; ComponentLink2URL: http://www.analog.com/UploadedFiles/Data_Sheets/7987730331233011ADSP_21062_L_b.pdf
footprint MQFP240-3.3V_N (Shrink QFP, 240-Leads, Body 32x32mm, Pitch 0.5mm, IPC Medium Density)
footprint MQFP240-3.3V_L (Shrink QFP, 240-Leads, Body 32x32mm, Pitch 0.5mm, IPC High Density)
footprint MQFP240-3.3V_M (Shrink QFP, 240-Leads, Body 32x32mm, Pitch 0.5mm, IPC Low Density)
3D model 21062L-MQFP240 (240-Pin Shrink Quad Flat Pack 0.5 mm Pitch)
part A pins: 1 TDI (in), 2 ~{TRST} (in), 4 TDO (out), 5 TIMEXP (out), 6 ~{EMU} (out), 7 ICSA (out), 8 FLAG3 (io), 9 FLAG2 (io), 10 FLAG1 (io), 11 FLAG0 (io), 13 ADDR0 (io), 14 ADDR1 (io), 16 ADDR2 (io), 17 ADDR3 (io), 18 ADDR4 (io), 20 ADDR5 (io), 21 ADDR6 (io), 22 ADDR7 (io), 24 ADDR8 (io), 25 ADDR9 (io), 26 ADDR10 (io), 28 ADDR11 (io), 29 ADDR12 (io), 30 ADDR13 (io), 32 ADDR14 (io), 33 ADDR15 (io), 35 ADDR16 (io), 36 ADDR17 (io), 37 ADDR18 (io), 40 ADDR19 (io), 41 ADDR20 (io), 42 ADDR21 (io), 44 ADDR22 (io), 45 ADDR23 (io), 46 ADDR24 (io), 50 ADDR25 (io), 51 ADDR26 (io), 52 ADDR27 (io), 54 ~{MS}3 (io), 55 ~{MS}2 (io), 56 ~{MS}1 (io), 57 ~{MS}0 (io), 58 ~{SW} (io), 59 ~{BMS} (io), 60 ADDR28 (io), 64 ADDR29 (io), 65 ADDR30 (io), 66 ADDR31 (io), 68 ~{SBTS} (in), 69 ~{DMAR}2 (in), 70 ~{DMAR}1 (in), 71 ~{HBR} (in), 72 DT1 (out), 73 TCLK1 (io), 74 TFS1 (io), 75 DR1 (in), 76 RCLK1 (io), 77 RFS1 (io), 79 ~{CPA} (io), 80 DT0 (out), 81 TCLK0 (io), 82 TFS0 (io), 83 DR0 (in), 84 RCLK0 (io), 85 RFS0 (io), 89 ADRCLK (hiz), 90 REDY (out), 91 ~{HBG} (io), 92 ~{CS} (in), 93 ~{RD} (io), 94 ~{WR} (io), 98 CLKIN (in), 99 ACK (io), 100 ~{DMAG}2 (hiz), 101 ~{DMAG}1 (hiz), 102 PAGE (hiz), 104 ~{BR}6 (io), 105 ~{BR}5 (io), 106 ~{BR}4 (io), 107 ~{BR}3 (io), 108 ~{BR}2 (io), 109 ~{BR}1 (io), 113 DATA47 (io), 114 DATA46 (io), 115 DATA45 (io), 117 DATA44 (io), 118 DATA43 (io), 119 DATA42 (io), 121 DATA41 (io), 122 DATA40 (io), 123 DATA39 (io), 125 DATA38 (io), 126 DATA37 (io), 127 DATA36 (io), 130 DATA35 (io), 131 DATA34 (io), 132 DATA33 (io), 136 DATA32 (io), 137 DATA31 (io), 138 DATA30 (io), 140 DATA29 (io), 141 DATA28 (io), 142 DATA27 (io), 145 DATA26 (io), 146 DATA25 (io), 147 DATA24 (io), 149 DATA23 (io), 150 DATA22 (io), 151 DATA21 (io), 153 DATA20 (io), 154 DATA19 (io), 155 DATA18 (io), 157 DATA17 (io), 158 DATA16 (io), 159 DATA15 (io), 161 DATA14 (io), 162 DATA13 (io), 163 DATA12 (io), 165 DATA11 (io), 166 DATA10 (io), 167 DATA9 (io), 169 DATA8 (io), 170 DATA7 (io), 171 DATA6 (io), 173 DATA5 (io), 174 DATA4 (io), 175 DATA3 (io), 177 DATA2 (io), 178 DATA1 (io), 179 DATA0 (io), 182 L0DAT3 (io), 183 L0DAT2 (io), 184 L0DAT1 (io), 185 L0DAT0 (io), 186 L0CLK (io), 187 L0ACK (io), 189 L1DAT3 (io), 190 L1DAT2 (io), 191 L1DAT1 (io), 192 L1DAT0 (io), 193 L1CLK (io), 194 L1ACK (io), 198 L2DAT3 (io), 199 L2DAT2 (io), 200 L2DAT1 (io), 201 L2DAT0 (io), 202 L2CLK (io), 203 L2ACK (io), 206 L3DAT3 (io), 207 L3DAT2 (io), 208 L3DAT1 (io), 209 L3DAT0 (io), 210 L3CLK (io), 211 L3ACK (io), 213 L4DAT3 (io), 214 L4DAT2 (io), 215 L4DAT1 (io), 216 L4DAT0 (io), 217 L4CLK (io), 218 L4ACK (io), 222 L5DAT3 (io), 223 L5DAT2 (io), 224 L5DAT1 (io), 225 L5DAT0 (io), 226 L5CLK (io), 227 L5ACK (io), 229 ID2 (in), 230 ID1 (in), 231 ID0 (in), 232 LBOOT (in), 233 RPBA (in), 234 ~{RESET} (in), 235 EBOOT (in), 236 ~{IRQ}2 (in), 237 ~{IRQ}1 (in), 238 ~{IRQ}0 (in), 239 TCK (in), 240 TMS (in)
part B pins: 3 VDD (power), 12 GND (power), 15 VDD (power), 19 GND (power), 23 VDD (power), 27 GND (power), 31 VDD (power), 34 GND (power), 38 VDD (power), 39 VDD (power), 43 GND (power), 47 VDD (power), 48 GND (power), 49 VDD (power), 53 GND (power), 61 GND (power), 62 VDD (power), 63 VDD (power), 67 GND (power), 78 GND (power), 86 VDD (power), 87 VDD (power), 88 GND (power), 95 GND (power), 96 VDD (power), 97 GND (power), 103 VDD (power), 110 GND (power), 111 VDD (power), 112 GND (power), 116 VDD (power), 120 GND (power), 124 VDD (power), 128 GND (power), 129 NC, 133 VDD (power), 134 VDD (power), 135 GND (power), 139 GND (power), 143 VDD (power), 144 VDD (power), 148 GND (power), 152 VDD (power), 156 GND (power), 160 VDD (power), 164 GND (power), 168 VDD (power), 172 GND (power), 176 VDD (power), 180 GND (power), 181 GND (power), 188 VDD (power), 195 GND (power), 196 GND (power), 197 VDD (power), 204 NC, 205 VDD (power), 212 GND (power), 219 VDD (power), 220 GND (power), 221 VDD (power), 228 GND (power)

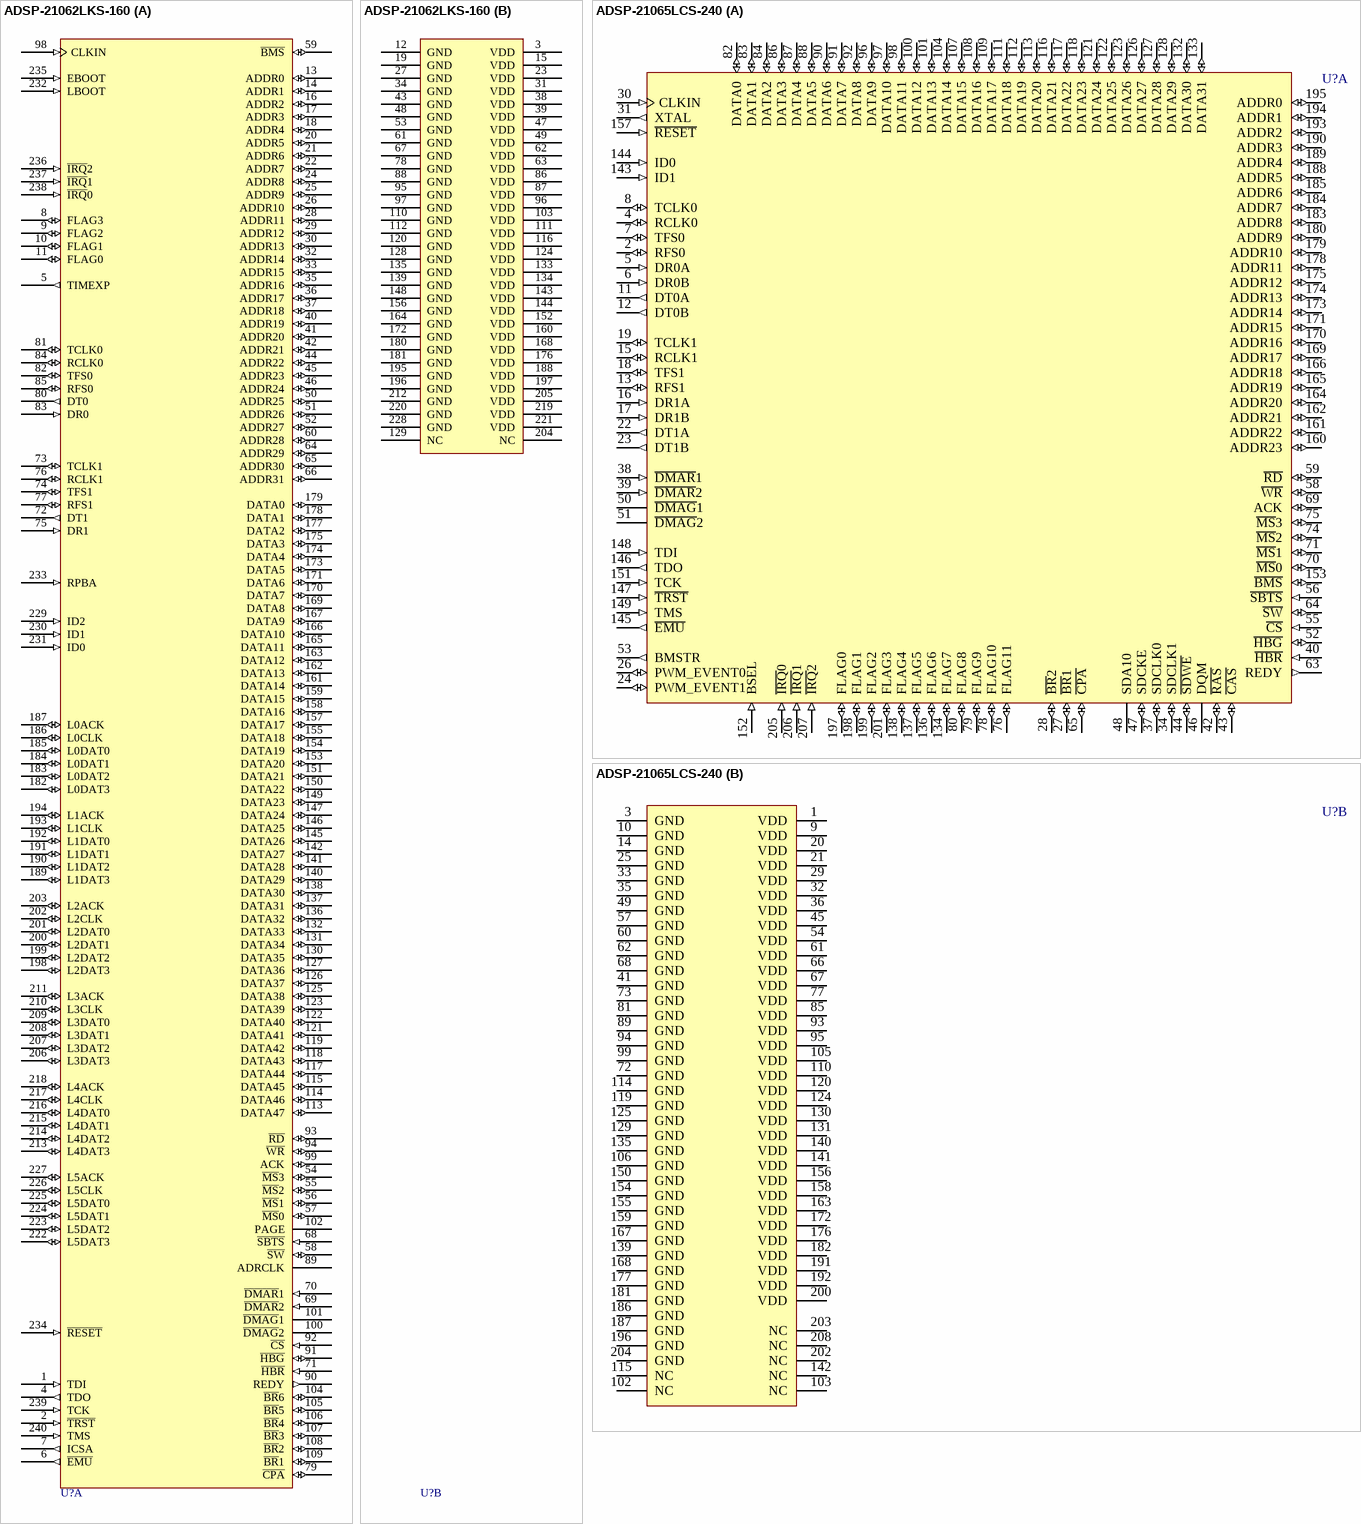
[diagram p37: symbols ADSP-21062LKS-160 to ADSP-21065LCS-240]

## ADSP-21062LKS-160
designator U?
SHARC, 40MHZ, 120 MFLOPS, 3.3V, DSP Microcomputer Floating Point; Published: 24-Aug-2001; LatestRevisionDate: 13-Apr-2006; LatestRevisionNote: IPC-7351 Footprint Added.; DatasheetVersion: 2000; PackageVersion: 2000; PackageReference: MQFP240-3.3V; Publisher: Altium Limited; PackageDescription: 240-Pin Shrink Quad Flat Pack 0.5 mm Pitch; ComponentLink1Description: Manufacturer Link; ComponentLink1URL: http://www.analog.com/; ComponentLink2Description: Datasheet; ComponentLink2URL: http://www.analog.com/UploadedFiles/Data_Sheets/7987730331233011ADSP_21062_L_b.pdf
footprint MQFP240-3.3V_N (Shrink QFP, 240-Leads, Body 32x32mm, Pitch 0.5mm, IPC Medium Density)
footprint MQFP240-3.3V_L (Shrink QFP, 240-Leads, Body 32x32mm, Pitch 0.5mm, IPC High Density)
footprint MQFP240-3.3V_M (Shrink QFP, 240-Leads, Body 32x32mm, Pitch 0.5mm, IPC Low Density)
3D model 21062L-MQFP240 (240-Pin Shrink Quad Flat Pack 0.5 mm Pitch)
part A pins: 1 TDI (in), 2 ~{TRST} (in), 4 TDO (out), 5 TIMEXP (out), 6 ~{EMU} (out), 7 ICSA (out), 8 FLAG3 (io), 9 FLAG2 (io), 10 FLAG1 (io), 11 FLAG0 (io), 13 ADDR0 (io), 14 ADDR1 (io), 16 ADDR2 (io), 17 ADDR3 (io), 18 ADDR4 (io), 20 ADDR5 (io), 21 ADDR6 (io), 22 ADDR7 (io), 24 ADDR8 (io), 25 ADDR9 (io), 26 ADDR10 (io), 28 ADDR11 (io), 29 ADDR12 (io), 30 ADDR13 (io), 32 ADDR14 (io), 33 ADDR15 (io), 35 ADDR16 (io), 36 ADDR17 (io), 37 ADDR18 (io), 40 ADDR19 (io), 41 ADDR20 (io), 42 ADDR21 (io), 44 ADDR22 (io), 45 ADDR23 (io), 46 ADDR24 (io), 50 ADDR25 (io), 51 ADDR26 (io), 52 ADDR27 (io), 54 ~{MS}3 (io), 55 ~{MS}2 (io), 56 ~{MS}1 (io), 57 ~{MS}0 (io), 58 ~{SW} (io), 59 ~{BMS} (io), 60 ADDR28 (io), 64 ADDR29 (io), 65 ADDR30 (io), 66 ADDR31 (io), 68 ~{SBTS} (in), 69 ~{DMAR}2 (in), 70 ~{DMAR}1 (in), 71 ~{HBR} (in), 72 DT1 (out), 73 TCLK1 (io), 74 TFS1 (io), 75 DR1 (in), 76 RCLK1 (io), 77 RFS1 (io), 79 ~{CPA} (io), 80 DT0 (out), 81 TCLK0 (io), 82 TFS0 (io), 83 DR0 (in), 84 RCLK0 (io), 85 RFS0 (io), 89 ADRCLK (hiz), 90 REDY (out), 91 ~{HBG} (io), 92 ~{CS} (in), 93 ~{RD} (io), 94 ~{WR} (io), 98 CLKIN (in), 99 ACK (io), 100 ~{DMAG}2 (hiz), 101 ~{DMAG}1 (hiz), 102 PAGE (hiz), 104 ~{BR}6 (io), 105 ~{BR}5 (io), 106 ~{BR}4 (io), 107 ~{BR}3 (io), 108 ~{BR}2 (io), 109 ~{BR}1 (io), 113 DATA47 (io), 114 DATA46 (io), 115 DATA45 (io), 117 DATA44 (io), 118 DATA43 (io), 119 DATA42 (io), 121 DATA41 (io), 122 DATA40 (io), 123 DATA39 (io), 125 DATA38 (io), 126 DATA37 (io), 127 DATA36 (io), 130 DATA35 (io), 131 DATA34 (io), 132 DATA33 (io), 136 DATA32 (io), 137 DATA31 (io), 138 DATA30 (io), 140 DATA29 (io), 141 DATA28 (io), 142 DATA27 (io), 145 DATA26 (io), 146 DATA25 (io), 147 DATA24 (io), 149 DATA23 (io), 150 DATA22 (io), 151 DATA21 (io), 153 DATA20 (io), 154 DATA19 (io), 155 DATA18 (io), 157 DATA17 (io), 158 DATA16 (io), 159 DATA15 (io), 161 DATA14 (io), 162 DATA13 (io), 163 DATA12 (io), 165 DATA11 (io), 166 DATA10 (io), 167 DATA9 (io), 169 DATA8 (io), 170 DATA7 (io), 171 DATA6 (io), 173 DATA5 (io), 174 DATA4 (io), 175 DATA3 (io), 177 DATA2 (io), 178 DATA1 (io), 179 DATA0 (io), 182 L0DAT3 (io), 183 L0DAT2 (io), 184 L0DAT1 (io), 185 L0DAT0 (io), 186 L0CLK (io), 187 L0ACK (io), 189 L1DAT3 (io), 190 L1DAT2 (io), 191 L1DAT1 (io), 192 L1DAT0 (io), 193 L1CLK (io), 194 L1ACK (io), 198 L2DAT3 (io), 199 L2DAT2 (io), 200 L2DAT1 (io), 201 L2DAT0 (io), 202 L2CLK (io), 203 L2ACK (io), 206 L3DAT3 (io), 207 L3DAT2 (io), 208 L3DAT1 (io), 209 L3DAT0 (io), 210 L3CLK (io), 211 L3ACK (io), 213 L4DAT3 (io), 214 L4DAT2 (io), 215 L4DAT1 (io), 216 L4DAT0 (io), 217 L4CLK (io), 218 L4ACK (io), 222 L5DAT3 (io), 223 L5DAT2 (io), 224 L5DAT1 (io), 225 L5DAT0 (io), 226 L5CLK (io), 227 L5ACK (io), 229 ID2 (in), 230 ID1 (in), 231 ID0 (in), 232 LBOOT (in), 233 RPBA (in), 234 ~{RESET} (in), 235 EBOOT (in), 236 ~{IRQ}2 (in), 237 ~{IRQ}1 (in), 238 ~{IRQ}0 (in), 239 TCK (in), 240 TMS (in)
part B pins: 3 VDD (power), 12 GND (power), 15 VDD (power), 19 GND (power), 23 VDD (power), 27 GND (power), 31 VDD (power), 34 GND (power), 38 VDD (power), 39 VDD (power), 43 GND (power), 47 VDD (power), 48 GND (power), 49 VDD (power), 53 GND (power), 61 GND (power), 62 VDD (power), 63 VDD (power), 67 GND (power), 78 GND (power), 86 VDD (power), 87 VDD (power), 88 GND (power), 95 GND (power), 96 VDD (power), 97 GND (power), 103 VDD (power), 110 GND (power), 111 VDD (power), 112 GND (power), 116 VDD (power), 120 GND (power), 124 VDD (power), 128 GND (power), 129 NC, 133 VDD (power), 134 VDD (power), 135 GND (power), 139 GND (power), 143 VDD (power), 144 VDD (power), 148 GND (power), 152 VDD (power), 156 GND (power), 160 VDD (power), 164 GND (power), 168 VDD (power), 172 GND (power), 176 VDD (power), 180 GND (power), 181 GND (power), 188 VDD (power), 195 GND (power), 196 GND (power), 197 VDD (power), 204 NC, 205 VDD (power), 212 GND (power), 219 VDD (power), 220 GND (power), 221 VDD (power), 228 GND (power)

## ADSP-21065LCS-240
designator U?
Low-Cost SHARC, 60 MHZ, 180 MFLOPS, 3.3V, Floating Point; Published: 24-Aug-2001; LatestRevisionDate: 13-Apr-2006; LatestRevisionNote: IPC-7351 Footprint Added.; DatasheetVersion: 2000; PackageVersion: 2000; PackageReference: MQFP208; Publisher: Altium Limited; PackageDescription: 208-Pin Shrink Quad Flat Pack 0.5 mm Pitch; ComponentLink1Description: Manufacturer Link; ComponentLink1URL: http://www.analog.com/; ComponentLink2Description: Datasheet; ComponentLink2URL: http://www.analog.com/UploadedFiles/Data_Sheets/3587558086188ADSP-21065L_c.pdf
footprint MQFP208_N (Shrink QFP, 208-Leads, Body 28x28mm, Pitch 0.5mm, IPC Medium Density)
footprint MQFP208_L (Shrink QFP, 208-Leads, Body 28x28mm, Pitch 0.5mm, IPC High Density)
footprint MQFP208_M (Shrink QFP, 208-Leads, Body 28x28mm, Pitch 0.5mm, IPC Low Density)
3D model 21065L-MQFP208 (208-Pin Shrink Quad Flat Pack 0.5 mm Pitch)
part A pins: 2 RFS0 (io), 4 RCLK0 (io), 5 DR0A (in), 6 DR0B (in), 7 TFS0 (io), 8 TCLK0 (io), 11 DT0A (out), 12 DT0B (out), 13 RFS1 (io), 15 RCLK1 (io), 16 DR1A (in), 17 DR1B (in), 18 TFS1 (io), 19 TCLK1 (io), 22 DT1A (out), 23 DT1B (out), 24 PWM_EVENT1 (io), 26 PWM_EVENT0 (io), 27 ~{BR}1 (io), 28 ~{BR}2 (io), 30 CLKIN (in), 31 XTAL (out), 34 SDCLK1 (io), 37 SDCLK0 (io), 38 ~{DMAR}1 (in), 39 ~{DMAR}2 (in), 40 ~{HBR} (in), 42 ~{RAS} (io), 43 ~{CAS} (io), 44 ~{SDWE} (io), 46 DQM (hiz), 47 SDCKE (io), 48 SDA10 (hiz), 50 ~{DMAG}1 (hiz), 51 ~{DMAG}2 (hiz), 52 ~{HBG} (io), 53 BMSTR (out), 55 ~{CS} (in), 56 ~{SBTS} (in), 58 ~{WR} (io), 59 ~{RD} (io), 63 REDY (out), 64 ~{SW} (io), 65 ~{CPA} (io), 69 ACK (io), 70 ~{MS}0 (io), 71 ~{MS}1 (io), 74 ~{MS}2 (io), 75 ~{MS}3 (io), 76 FLAG11 (io), 78 FLAG10 (io), 79 FLAG9 (io), 80 FLAG8 (io), 82 DATA0 (io), 83 DATA1 (io), 84 DATA2 (io), 86 DATA3 (io), 87 DATA4 (io), 88 DATA5 (io), 90 DATA6 (io), 91 DATA7 (io), 92 DATA8 (io), 96 DATA9 (io), 97 DATA10 (io), 98 DATA11 (io), 100 DATA12 (io), 101 DATA13 (io), 104 DATA14 (io), 107 DATA15 (io), 108 DATA16 (io), 109 DATA17 (io), 111 DATA18 (io), 112 DATA19 (io), 113 DATA20 (io), 116 DATA21 (io), 117 DATA22 (io), 118 DATA23 (io), 121 DATA24 (io), 122 DATA25 (io), 123 DATA26 (io), 126 DATA27 (io), 127 DATA28 (io), 128 DATA29 (io), 132 DATA30 (io), 133 DATA31 (io), 134 FLAG7 (io), 136 FLAG6 (io), 137 FLAG5 (io), 138 FLAG4 (io), 143 ID1 (in), 144 ID0 (in), 145 ~{EMU} (out), 146 TDO (out), 147 ~{TRST} (in), 148 TDI (in), 149 TMS (in), 151 TCK (in), 152 BSEL (in), 153 ~{BMS} (io), 157 ~{RESET} (in), 160 ADDR23 (io), 161 ADDR22 (io), 162 ADDR21 (io), 164 ADDR20 (io), 165 ADDR19 (io), 166 ADDR18 (io), 169 ADDR17 (io), 170 ADDR16 (io), 171 ADDR15 (io), 173 ADDR14 (io), 174 ADDR13 (io), 175 ADDR12 (io), 178 ADDR11 (io), 179 ADDR10 (io), 180 ADDR9 (io), 183 ADDR8 (io), 184 ADDR7 (io), 185 ADDR6 (io), 188 ADDR5 (io), 189 ADDR4 (io), 190 ADDR3 (io), 193 ADDR2 (io), 194 ADDR1 (io), 195 ADDR0 (io), 197 FLAG0 (io), 198 FLAG1 (io), 199 FLAG2 (io), 201 FLAG3 (io), 205 ~{IRQ}0 (in), 206 ~{IRQ}1 (in), 207 ~{IRQ}2 (in)
part B pins: 1 VDD (power), 3 GND (power), 9 VDD (power), 10 GND (power), 14 GND (power), 20 VDD (power), 21 VDD (power), 25 GND (power), 29 VDD (power), 32 VDD (power), 33 GND (power), 35 GND (power), 36 VDD (power), 41 GND (power), 45 VDD (power), 49 GND (power), 54 VDD (power), 57 GND (power), 60 GND (power), 61 VDD (power), 62 GND (power), 66 VDD (power), 67 VDD (power), 68 GND (power), 72 GND (power), 73 GND (power), 77 VDD (power), 81 GND (power), 85 VDD (power), 89 GND (power), 93 VDD (power), 94 GND (power), 95 VDD (power), 99 GND (power), 102 NC, 103 NC, 105 VDD (power), 106 GND (power), 110 VDD (power), 114 GND (power), 115 NC, 119 GND (power), 120 VDD (power), 124 VDD (power), 125 GND (power), 129 GND (power), 130 VDD (power), 131 VDD (power), 135 GND (power), 139 GND (power), 140 VDD (power), 141 VDD (power), 142 NC, 150 GND (power), 154 GND (power), 155 GND (power), 156 VDD (power), 158 VDD (power), 159 GND (power), 163 VDD (power), 167 GND (power), 168 GND (power), 172 VDD (power), 176 VDD (power), 177 GND (power), 181 GND (power), 182 VDD (power), 186 GND (power), 187 GND (power), 191 VDD (power), 192 VDD (power), 196 GND (power), 200 VDD (power), 202 NC, 203 NC, 204 GND (power), 208 NC

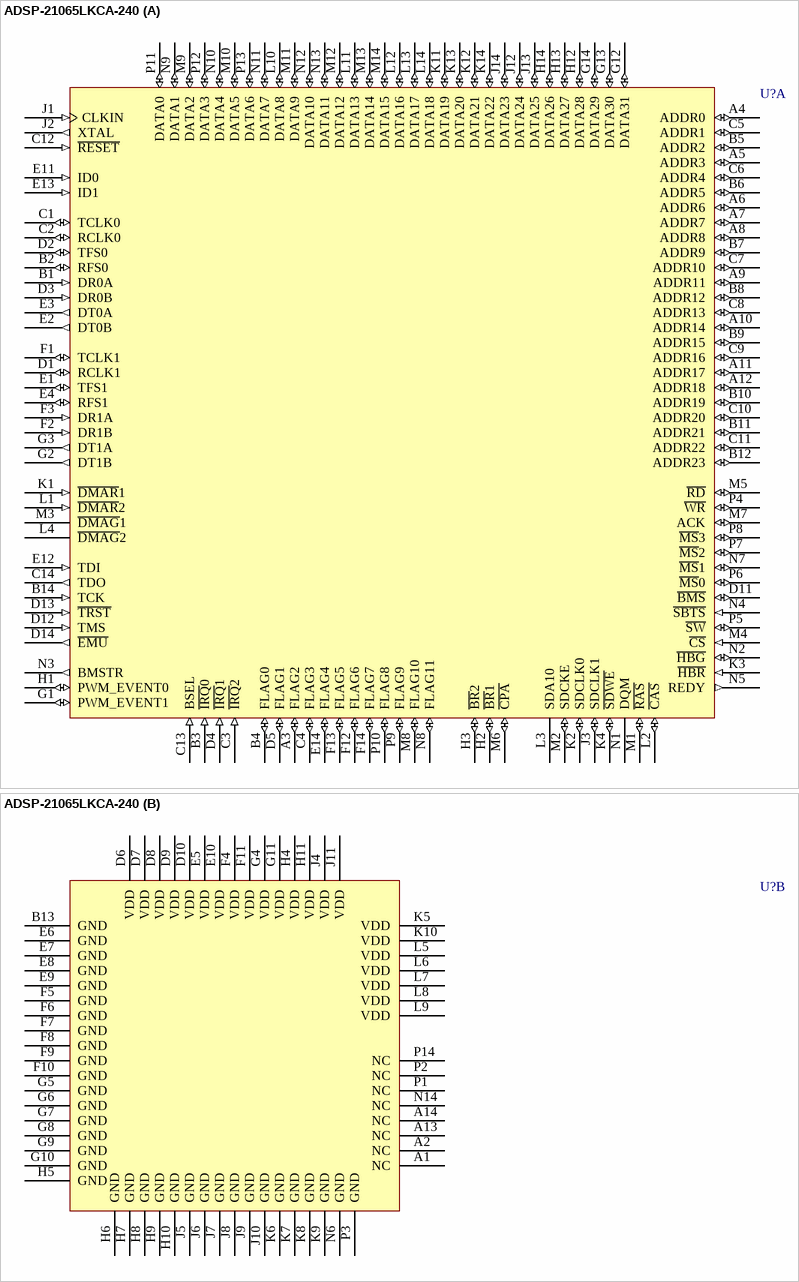
[diagram p38: symbol ADSP-21065LKCA-240]

## ADSP-21065LKCA-240
designator U?
Low-Cost SHARC, 60 MHZ, 180 MFLOPS, 3.3V, Floating Point; Published: 24-Aug-2001; LatestRevisionDate: 13-Apr-2006; LatestRevisionNote: IPC-7351 Footprint Added.; DatasheetVersion: 2000; PackageReference: BGA196; Publisher: Altium Limited; PackageDescription: 196-Ball Ball Grid Array 1 mm Pitch; Code_IPC: BGA100P14X14-196; ComponentLink1Description: Manufacturer Link; ComponentLink1URL: http://www.analog.com/; ComponentLink2Description: Datasheet; ComponentLink2URL: http://www.analog.com/UploadedFiles/Data_Sheets/3587558086188ADSP-21065L_c.pdf
footprint BGA196 (BGA, 196-Leads, Body 15x15mm, Pitch 1mm)
3D model 21065L-BGA196 (196-Ball Ball Grid Array 1 mm Pitch)
part A pins: A3 FLAG2 (io), A4 ADDR0 (io), A5 ADDR3 (io), A6 ADDR6 (io), A7 ADDR7 (io), A8 ADDR8 (io), A9 ADDR11 (io), A10 ADDR14 (io), A11 ADDR17 (io), A12 ADDR18 (io), B1 DR0A (in), B2 RFS0 (io), B3 ~{IRQ}0 (in), B4 FLAG0 (io), B5 ADDR2 (io), B6 ADDR5 (io), B7 ADDR9 (io), B8 ADDR12 (io), B9 ADDR15 (io), B10 ADDR19 (io), B11 ADDR21 (io), B12 ADDR23 (io), B14 TCK (in), C1 TCLK0 (io), C2 RCLK0 (io), C3 ~{IRQ}2 (in), C4 FLAG3 (io), C5 ADDR1 (io), C6 ADDR4 (io), C7 ADDR10 (io), C8 ADDR13 (io), C9 ADDR16 (io), C10 ADDR20 (io), C11 ADDR22 (io), C12 ~{RESET} (in), C13 BSEL (in), C14 TDO (out), D1 RCLK1 (io), D2 TFS0 (io), D3 DR0B (in), D4 ~{IRQ}1 (in), D5 FLAG1 (io), D11 ~{BMS} (io), D12 TMS (in), D13 ~{TRST} (in), D14 ~{EMU} (out), E1 TFS1 (io), E2 DT0B (out), E3 DT0A (out), E4 RFS1 (io), E11 ID0 (in), E12 TDI (in), E13 ID1 (in), E14 FLAG4 (io), F1 TCLK1 (io), F2 DR1B (in), F3 DR1A (in), F12 FLAG6 (io), F13 FLAG5 (io), F14 FLAG7 (io), G1 PWM_EVENT1 (io), G2 DT1B (out), G3 DT1A (out), G12 DATA31 (io), G13 DATA30 (io), G14 DATA29 (io), H1 PWM_EVENT0 (io), H2 ~{BR}1 (io), H3 ~{BR}2 (io), H12 DATA28 (io), H13 DATA27 (io), H14 DATA26 (io), J1 CLKIN (in), J2 XTAL (out), J3 SDCLK1 (io), J12 DATA24 (io), J13 DATA25 (io), J14 DATA23 (io), K1 ~{DMAR}1 (in), K2 SDCLK0 (io), K3 ~{HBR} (in), K4 ~{SDWE} (io), K11 DATA19 (io), K12 DATA21 (io), K13 DATA20 (io), K14 DATA22 (io), L1 ~{DMAR}2 (in), L2 ~{CAS} (io), L3 SDA10 (hiz), L4 ~{DMAG}2 (hiz), L10 DATA8 (io), L11 DATA13 (io), L12 DATA16 (io), L13 DATA17 (io), L14 DATA18 (io), M1 ~{RAS} (io), M2 SDCKE (io), M3 ~{DMAG}1 (hiz), M4 ~{CS} (in), M5 ~{RD} (io), M6 ~{CPA} (io), M7 ACK (io), M8 FLAG10 (io), M9 DATA2 (io), M10 DATA5 (io), M11 DATA9 (io), M12 DATA12 (io), M13 DATA14 (io), M14 DATA15 (io), N1 DQM (hiz), N2 ~{HBG} (io), N3 BMSTR (out), N4 ~{SBTS} (in), N5 REDY (out), N7 ~{MS}1 (io), N8 FLAG11 (io), N9 DATA1 (io), N10 DATA4 (io), N11 DATA7 (io), N12 DATA10 (io), N13 DATA11 (io), P4 ~{WR} (io), P5 ~{SW} (io), P6 ~{MS}0 (io), P7 ~{MS}2 (io), P8 ~{MS}3 (io), P9 FLAG9 (io), P10 FLAG8 (io), P11 DATA0 (io), P12 DATA3 (io), P13 DATA6 (io)
part B pins: A1 NC, A2 NC, A13 NC, A14 NC, B13 GND (power), D6 VDD (power), D7 VDD (power), D8 VDD (power), D9 VDD (power), D10 VDD (power), E5 VDD (power), E6 GND (power), E7 GND (power), E8 GND (power), E9 GND (power), E10 VDD (power), F4 VDD (power), F5 GND (power), F6 GND (power), F7 GND (power), F8 GND (power), F9 GND (power), F10 GND (power), F11 VDD (power), G4 VDD (power), G5 GND (power), G6 GND (power), G7 GND (power), G8 GND (power), G9 GND (power), G10 GND (power), G11 VDD (power), H4 VDD (power), H5 GND (power), H6 GND (power), H7 GND (power), H8 GND (power), H9 GND (power), H10 GND (power), H11 VDD (power), J4 VDD (power), J5 GND (power), J6 GND (power), J7 GND (power), J8 GND (power), J9 GND (power), J10 GND (power), J11 VDD (power), K5 VDD (power), K6 GND (power), K7 GND (power), K8 GND (power), K9 GND (power), K10 VDD (power), L5 VDD (power), L6 VDD (power), L7 VDD (power), L8 VDD (power), L9 VDD (power), N6 GND (power), N14 NC, P1 NC, P2 NC, P3 GND (power), P14 NC

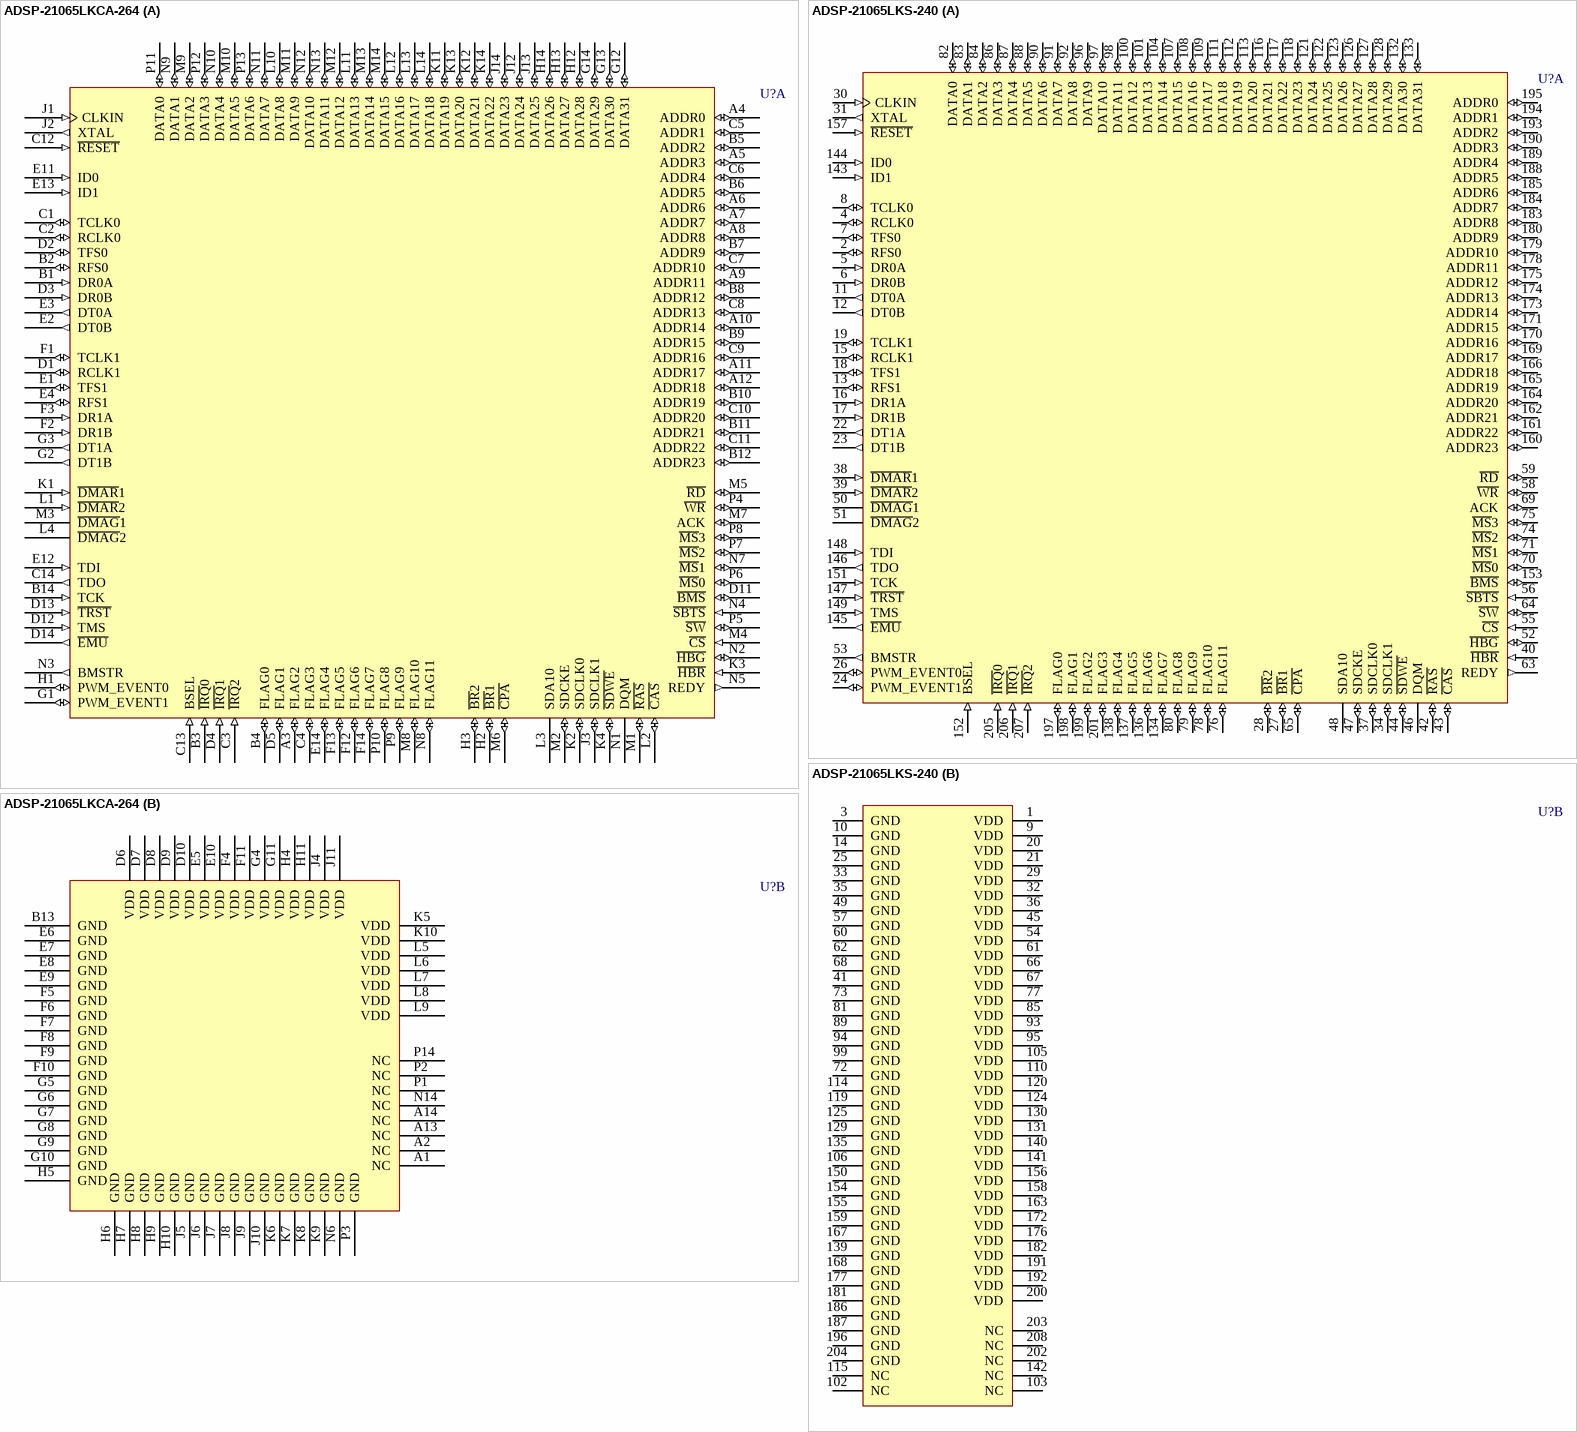
[diagram p39: symbols ADSP-21065LKCA-264 to ADSP-21065LKS-240]

## ADSP-21065LKCA-264
designator U?
Low-Cost SHARC, 60 MHZ, 180 MFLOPS, 3.3V, Floating Point; Published: 24-Aug-2001; LatestRevisionDate: 13-Apr-2006; LatestRevisionNote: IPC-7351 Footprint Added.; DatasheetVersion: 2000; PackageReference: BGA196; Publisher: Altium Limited; PackageDescription: 196-Ball Ball Grid Array 1 mm Pitch; Code_IPC: BGA100P14X14-196; ComponentLink1Description: Manufacturer Link; ComponentLink1URL: http://www.analog.com/; ComponentLink2Description: Datasheet; ComponentLink2URL: http://www.analog.com/UploadedFiles/Data_Sheets/3587558086188ADSP-21065L_c.pdf
footprint BGA196 (BGA, 196-Leads, Body 15x15mm, Pitch 1mm)
3D model 21065L-BGA196 (196-Ball Ball Grid Array 1 mm Pitch)
part A pins: A3 FLAG2 (io), A4 ADDR0 (io), A5 ADDR3 (io), A6 ADDR6 (io), A7 ADDR7 (io), A8 ADDR8 (io), A9 ADDR11 (io), A10 ADDR14 (io), A11 ADDR17 (io), A12 ADDR18 (io), B1 DR0A (in), B2 RFS0 (io), B3 ~{IRQ}0 (in), B4 FLAG0 (io), B5 ADDR2 (io), B6 ADDR5 (io), B7 ADDR9 (io), B8 ADDR12 (io), B9 ADDR15 (io), B10 ADDR19 (io), B11 ADDR21 (io), B12 ADDR23 (io), B14 TCK (in), C1 TCLK0 (io), C2 RCLK0 (io), C3 ~{IRQ}2 (in), C4 FLAG3 (io), C5 ADDR1 (io), C6 ADDR4 (io), C7 ADDR10 (io), C8 ADDR13 (io), C9 ADDR16 (io), C10 ADDR20 (io), C11 ADDR22 (io), C12 ~{RESET} (in), C13 BSEL (in), C14 TDO (out), D1 RCLK1 (io), D2 TFS0 (io), D3 DR0B (in), D4 ~{IRQ}1 (in), D5 FLAG1 (io), D11 ~{BMS} (io), D12 TMS (in), D13 ~{TRST} (in), D14 ~{EMU} (out), E1 TFS1 (io), E2 DT0B (out), E3 DT0A (out), E4 RFS1 (io), E11 ID0 (in), E12 TDI (in), E13 ID1 (in), E14 FLAG4 (io), F1 TCLK1 (io), F2 DR1B (in), F3 DR1A (in), F12 FLAG6 (io), F13 FLAG5 (io), F14 FLAG7 (io), G1 PWM_EVENT1 (io), G2 DT1B (out), G3 DT1A (out), G12 DATA31 (io), G13 DATA30 (io), G14 DATA29 (io), H1 PWM_EVENT0 (io), H2 ~{BR}1 (io), H3 ~{BR}2 (io), H12 DATA28 (io), H13 DATA27 (io), H14 DATA26 (io), J1 CLKIN (in), J2 XTAL (out), J3 SDCLK1 (io), J12 DATA24 (io), J13 DATA25 (io), J14 DATA23 (io), K1 ~{DMAR}1 (in), K2 SDCLK0 (io), K3 ~{HBR} (in), K4 ~{SDWE} (io), K11 DATA19 (io), K12 DATA21 (io), K13 DATA20 (io), K14 DATA22 (io), L1 ~{DMAR}2 (in), L2 ~{CAS} (io), L3 SDA10 (hiz), L4 ~{DMAG}2 (hiz), L10 DATA8 (io), L11 DATA13 (io), L12 DATA16 (io), L13 DATA17 (io), L14 DATA18 (io), M1 ~{RAS} (io), M2 SDCKE (io), M3 ~{DMAG}1 (hiz), M4 ~{CS} (in), M5 ~{RD} (io), M6 ~{CPA} (io), M7 ACK (io), M8 FLAG10 (io), M9 DATA2 (io), M10 DATA5 (io), M11 DATA9 (io), M12 DATA12 (io), M13 DATA14 (io), M14 DATA15 (io), N1 DQM (hiz), N2 ~{HBG} (io), N3 BMSTR (out), N4 ~{SBTS} (in), N5 REDY (out), N7 ~{MS}1 (io), N8 FLAG11 (io), N9 DATA1 (io), N10 DATA4 (io), N11 DATA7 (io), N12 DATA10 (io), N13 DATA11 (io), P4 ~{WR} (io), P5 ~{SW} (io), P6 ~{MS}0 (io), P7 ~{MS}2 (io), P8 ~{MS}3 (io), P9 FLAG9 (io), P10 FLAG8 (io), P11 DATA0 (io), P12 DATA3 (io), P13 DATA6 (io)
part B pins: A1 NC, A2 NC, A13 NC, A14 NC, B13 GND (power), D6 VDD (power), D7 VDD (power), D8 VDD (power), D9 VDD (power), D10 VDD (power), E5 VDD (power), E6 GND (power), E7 GND (power), E8 GND (power), E9 GND (power), E10 VDD (power), F4 VDD (power), F5 GND (power), F6 GND (power), F7 GND (power), F8 GND (power), F9 GND (power), F10 GND (power), F11 VDD (power), G4 VDD (power), G5 GND (power), G6 GND (power), G7 GND (power), G8 GND (power), G9 GND (power), G10 GND (power), G11 VDD (power), H4 VDD (power), H5 GND (power), H6 GND (power), H7 GND (power), H8 GND (power), H9 GND (power), H10 GND (power), H11 VDD (power), J4 VDD (power), J5 GND (power), J6 GND (power), J7 GND (power), J8 GND (power), J9 GND (power), J10 GND (power), J11 VDD (power), K5 VDD (power), K6 GND (power), K7 GND (power), K8 GND (power), K9 GND (power), K10 VDD (power), L5 VDD (power), L6 VDD (power), L7 VDD (power), L8 VDD (power), L9 VDD (power), N6 GND (power), N14 NC, P1 NC, P2 NC, P3 GND (power), P14 NC